# Altium schematic symbol library DC2342A-4_Library.SchLib: 120 symbols
Pins are listed as number, name and electrical type; pins without a type are passive.

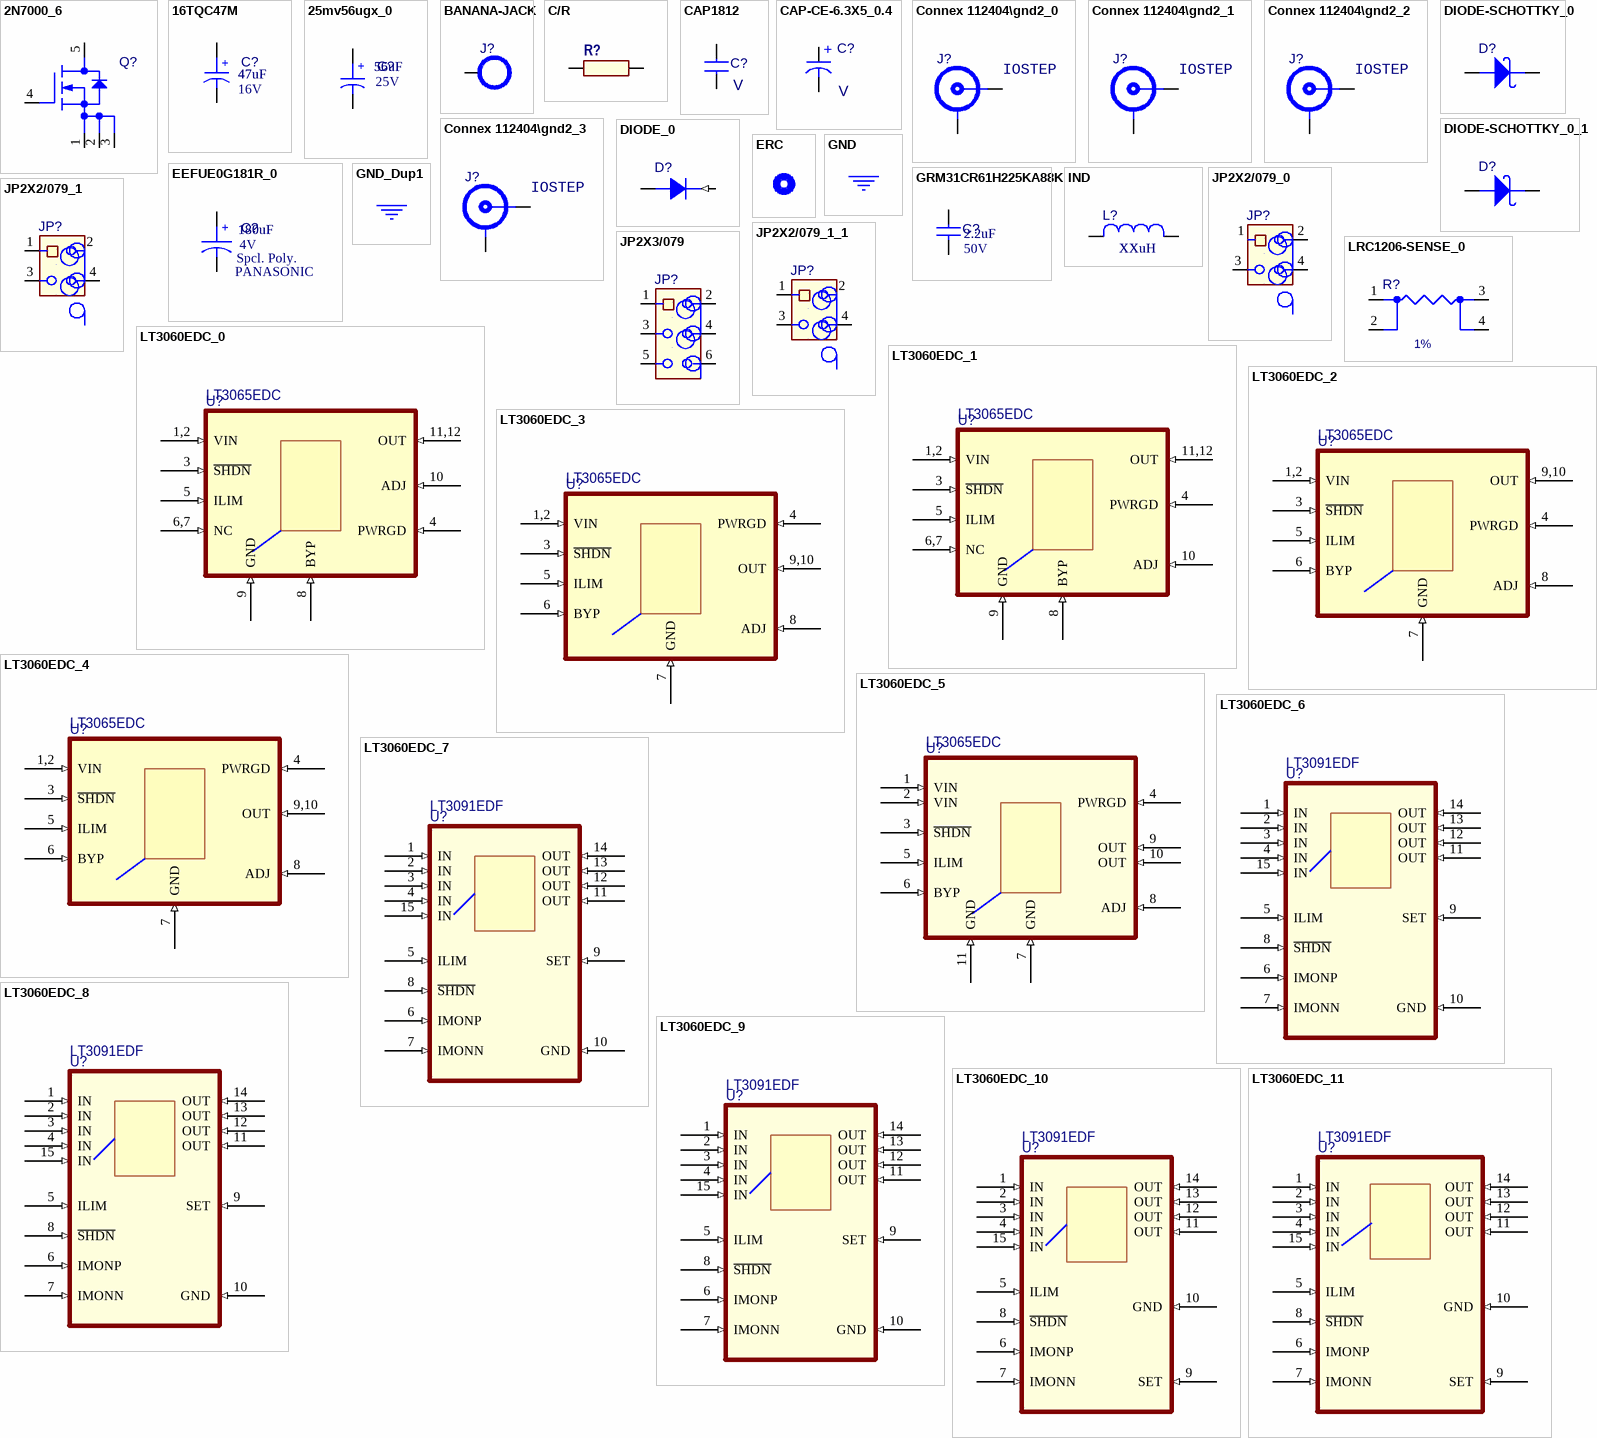
[diagram p0: symbols 2N7000_6 to LT3060EDC_11]

## 2N7000_6
designator Q?
pins: 1 SOURCE, 2 SOURCE, 3 SOURCE, 4 GATE, 5 DRAIN

## 16TQC47M
designator C?, comment 47uF  1st Part Field: 16V
2nd Part Field: 10%; 7th Part Field: Cap.,; 5th Part Field: 16TQC47M; 4th Part Field: SANYO; 3rd Part Field: POSCAP; Value: 47uF
footprint 7343\POSCAP
pins: 1, 2
text: +

## 25mv56ugx_0
designator C?, comment 56uF  1st Part Field: 25V
2nd Part Field: 25%; 7th Part Field: Cap.,; 5th Part Field: 25MV56UGX; 4th Part Field: SANYO; 3rd Part Field: Alum; Value: 56uF
footprint 25mv56ugx
pins: 1, 2
text: +

## BANANA-JACK
designator J?
footprint KEY-575-4
pins: 1

## C/R
designator R?, comment THERMISTOR  (value not drawn)
Value: THERMISTOR
footprint MF72
pins: 1, 2

## CAP1812
designator C?  1ST PART FIELD: V
4TH PART FIELD: MF; 5TH PART FIELD: 1812; 7TH PART FIELD: CAP.,; 3RD PART FIELD: TYPE; 2ND PART FIELD: % 1812
footprint CAP1812
pins: 1, 2

## CAP-CE-6.3X5_0.4
designator C?  1ST PART FIELD: V
4TH PART FIELD: SANYO; 5TH PART FIELD: ..CV..; 7TH PART FIELD: CAP.,; 3RD PART FIELD: CV   6.3X6.0; 2ND PART FIELD: %
footprint CAP-CE-6.3X5.4
pins: 1, 2
text: +

## Connex 112404\gnd2_0
designator J?, comment 9th Part Field: IOSTEP  (hidden comment: Connector)
7th Part Field: BNC; 5th Part Field: 112404; 4th Part Field: Connex; Value: Connector
footprint Connex-112404
pins: 1, 2 GND, 3 GND (power) hidden to GND, 4 GND (power) hidden to GND, 5 GND (power) hidden to GND

## Connex 112404\gnd2_1
designator J?, comment 9th Part Field: IOSTEP  (hidden comment: Connector)
7th Part Field: BNC; 5th Part Field: 112404; 4th Part Field: Connex; Value: Connector
footprint Connex-112404
pins: 1, 2, 3 (power) hidden to 3, 4 GND (power) hidden to GND, 5 (power) hidden to 5

## Connex 112404\gnd2_2
designator J?, comment 9th Part Field: IOSTEP  (hidden comment: Connector)
4th Part Field: Connex; 5th Part Field: 112404; 7th Part Field: BNC; Value: Connector
footprint Connex-112404
pins: 1, 2 (power) hidden to 2, 3 (power) hidden to 3, 4 GND, 5 (power) hidden to 5

## Connex 112404\gnd2_3
designator J?, comment 9th Part Field: IOSTEP  (hidden comment: Connector)
4th Part Field: Connex; 5th Part Field: 112404; 7th Part Field: BNC; Value: Connector
footprint Connex-112404
pins: 1, 2 (power) hidden to 2, 3 (power) hidden to 3, 4 GND, 5 (power) hidden to 5

## DIODE-SCHOTTKY_0
designator D?
footprint SOD-123
pins: 1, 2

## DIODE-SCHOTTKY_0_1
designator D?
footprint SOD-123
pins: 1, 2

## DIODE_0
designator D?
2ND PART FIELD: PACKAGE; 7TH PART FIELD: DIODE; 5TH PART FIELD: PART#; 4TH PART FIELD: MANUFACTURE; MANU: AVX
pins: 1 (in), 2

## EEFUE0G181R_0
designator C?, comment 180uF  1st Part Field: 4V  4th Part Field: PANASONIC  3rd Part Field: Spcl. Poly.
2nd Part Field: 20%; 7th Part Field: Capacitor,; 5th Part Field: EEFUE0G181R; Value: 180uF
footprint EEFUE0G181R
pins: 1, 2
text: +

## ERC
designator *  (value not drawn)  (graphical)

## GND
designator *  (value not drawn)  (graphical)
pins: GND (power) hidden to GND

## GND_Dup1
designator *  (value not drawn)  (graphical)
pins: $PIN0 (power) hidden to $PIN0

## GRM31CR61H225KA88K
designator C?, comment 2.2uF  1st Part Field: 50V
7th Part Field: Cap.,; 3rd Part Field: X5R; 5th Part Field: GRM31CR61H225KA88K; 4th Part Field: Murata; 2nd Part Field: 10%; Value: 2.2uF
footprint 1206
pins: 1, 2

## IND
designator L?, comment XXuH
7TH PART FIELD: INDUCTOR,; 5TH PART FIELD: PART NO; 4TH PART FIELD: MF; Value: XXuH
pins: 1, 2

## JP2X2/079_0
designator JP?  (value not drawn)
7 TH PART FIELD: 0.079 DOUBLE ROW HEADER
footprint JP2X2/079
pins: 1, 2, 3, 4

## JP2X2/079_1
designator JP?  (value not drawn)
7 TH PART FIELD: 0.079 DOUBLE ROW HEADER
footprint JP2X2/079
pins: 1, 2, 3, 4

## JP2X2/079_1_1
designator JP?  (value not drawn)
7 TH PART FIELD: 0.079 DOUBLE ROW HEADER
footprint JP2X2/079
pins: 1, 2, 3, 4

## JP2X3/079
designator JP?  (value not drawn)
7 TH PART FIELD: 0.079 DOUBLE ROW HEADER
footprint JP2X3/079
pins: 1, 2, 3, 4, 5, 6

## LRC1206-SENSE_0
designator R?  2nd Part Field: 1%
3rd Part Field: LRC; 4th Part Field: IRC; 5th Part Field: LR1206-----; 7th Part Field: Resistor,; 1st Part Field: 0.5W
footprint 1206-SENSE
pins: 1, 2, 3, 4

## LT3060EDC_0
designator U?, comment 5th Part Field: LT3065EDC  (hidden comment: Low Dropout Reg.)
7th Part Field: I.C.,; 4th Part Field: Linear Tech. Corp.; Value: Low Dropout Reg.
footprint DFN(08)(DC)2MMX2MM
pins: 1,2 VIN (in), 3 ~{SHDN} (in), 4 PWRGD (in), 5 ILIM (in), 6,7 NC (in), 8 BYP (in), 9 GND (in), 10 ADJ (in), 11,12 OUT (in)

## LT3060EDC_1
designator U?, comment 5th Part Field: LT3065EDC  (hidden comment: Low Dropout Reg.)
7th Part Field: I.C.,; 4th Part Field: Linear Tech. Corp.; Value: Low Dropout Reg.
footprint DFN(08)(DC)2MMX2MM
pins: 1,2 VIN (in), 3 ~{SHDN} (in), 4 PWRGD (in), 5 ILIM (in), 6,7 NC (in), 8 BYP (in), 9 GND (in), 10 ADJ (in), 11,12 OUT (in)

## LT3060EDC_2
designator U?, comment 5th Part Field: LT3065EDC  (hidden comment: Low Dropout Reg.)
4th Part Field: Linear Tech. Corp.; 7th Part Field: I.C.,; Value: Low Dropout Reg.
footprint DFN(08)(DC)2MMX2MM
pins: 1,2 VIN (in), 3 ~{SHDN} (in), 4 PWRGD (in), 5 ILIM (in), 6 BYP (in), 7 GND (in), 8 ADJ (in), 9,10 OUT (in)

## LT3060EDC_3
designator U?, comment 5th Part Field: LT3065EDC  (hidden comment: Low Dropout Reg.)
4th Part Field: Linear Tech. Corp.; 7th Part Field: I.C.,; Value: Low Dropout Reg.
footprint DFN(08)(DC)2MMX2MM
pins: 1,2 VIN (in), 3 ~{SHDN} (in), 4 PWRGD (in), 5 ILIM (in), 6 BYP (in), 7 GND (in), 8 ADJ (in), 9,10 OUT (in)

## LT3060EDC_4
designator U?, comment 5th Part Field: LT3065EDC  (hidden comment: Low Dropout Reg.)
4th Part Field: Linear Tech. Corp.; 7th Part Field: I.C.,; Value: Low Dropout Reg.
footprint DFN(08)(DC)2MMX2MM
pins: 1,2 VIN (in), 3 ~{SHDN} (in), 4 PWRGD (in), 5 ILIM (in), 6 BYP (in), 7 GND (in), 8 ADJ (in), 9,10 OUT (in)

## LT3060EDC_5
designator U?, comment 5th Part Field: LT3065EDC  (hidden comment: Low Dropout Reg.)
4th Part Field: Linear Tech. Corp.; 7th Part Field: I.C.,; Value: Low Dropout Reg.
footprint DFN(08)(DC)2MMX2MM
pins: 1 VIN (in), 2 VIN (in), 3 ~{SHDN} (in), 4 PWRGD (in), 5 ILIM (in), 6 BYP (in), 7 GND (in), 8 ADJ (in), 9 OUT (in), 10 OUT (in), 11 GND (in)

## LT3060EDC_6
designator U?, comment 5th Part Field: LT3091EDF  (hidden comment: Low Dropout Reg.)
7th Part Field: I.C.,; 4th Part Field: Linear Tech. Corp.; Value: Low Dropout Reg.
footprint DFN(08)(DC)2MMX2MM
pins: 1 IN (in), 2 IN (in), 3 IN (in), 4 IN (in), 5 ILIM (in), 6 IMONP (in), 7 IMONN (in), 8 ~{SHDN} (in), 9 SET (in), 10 GND (in), 11 OUT (in), 12 OUT (in), 13 OUT (in), 14 OUT (in), 15 IN (in)

## LT3060EDC_7
designator U?, comment 5th Part Field: LT3091EDF  (hidden comment: Low Dropout Reg.)
7th Part Field: I.C.,; 4th Part Field: Linear Tech. Corp.; Value: Low Dropout Reg.
footprint DFN(08)(DC)2MMX2MM
pins: 1 IN (in), 2 IN (in), 3 IN (in), 4 IN (in), 5 ILIM (in), 6 IMONP (in), 7 IMONN (in), 8 ~{SHDN} (in), 9 SET (in), 10 GND (in), 11 OUT (in), 12 OUT (in), 13 OUT (in), 14 OUT (in), 15 IN (in)

## LT3060EDC_8
designator U?, comment 5th Part Field: LT3091EDF  (hidden comment: Low Dropout Reg.)
7th Part Field: I.C.,; 4th Part Field: Linear Tech. Corp.; Value: Low Dropout Reg.
footprint DFN(08)(DC)2MMX2MM
pins: 1 IN (in), 2 IN (in), 3 IN (in), 4 IN (in), 5 ILIM (in), 6 IMONP (in), 7 IMONN (in), 8 ~{SHDN} (in), 9 SET (in), 10 GND (in), 11 OUT (in), 12 OUT (in), 13 OUT (in), 14 OUT (in), 15 IN (in)

## LT3060EDC_9
designator U?, comment 5th Part Field: LT3091EDF  (hidden comment: Low Dropout Reg.)
7th Part Field: I.C.,; 4th Part Field: Linear Tech. Corp.; Value: Low Dropout Reg.
footprint DFN(08)(DC)2MMX2MM
pins: 1 IN (in), 2 IN (in), 3 IN (in), 4 IN (in), 5 ILIM (in), 6 IMONP (in), 7 IMONN (in), 8 ~{SHDN} (in), 9 SET (in), 10 GND (in), 11 OUT (in), 12 OUT (in), 13 OUT (in), 14 OUT (in), 15 IN (in)

## LT3060EDC_10
designator U?, comment 5th Part Field: LT3091EDF  (hidden comment: Low Dropout Reg.)
7th Part Field: I.C.,; 4th Part Field: Linear Tech. Corp.; Value: Low Dropout Reg.
footprint DFN(08)(DC)2MMX2MM
pins: 1 IN (in), 2 IN (in), 3 IN (in), 4 IN (in), 5 ILIM (in), 6 IMONP (in), 7 IMONN (in), 8 ~{SHDN} (in), 9 SET (in), 10 GND (in), 11 OUT (in), 12 OUT (in), 13 OUT (in), 14 OUT (in), 15 IN (in)

## LT3060EDC_11
designator U?, comment 5th Part Field: LT3091EDF  (hidden comment: Low Dropout Reg.)
4th Part Field: Linear Tech. Corp.; 7th Part Field: I.C.,; Value: Low Dropout Reg.
footprint DFN(08)(DC)2MMX2MM
pins: 1 IN (in), 2 IN (in), 3 IN (in), 4 IN (in), 5 ILIM (in), 6 IMONP (in), 7 IMONN (in), 8 ~{SHDN} (in), 9 SET (in), 10 GND (in), 11 OUT (in), 12 OUT (in), 13 OUT (in), 14 OUT (in), 15 IN (in)

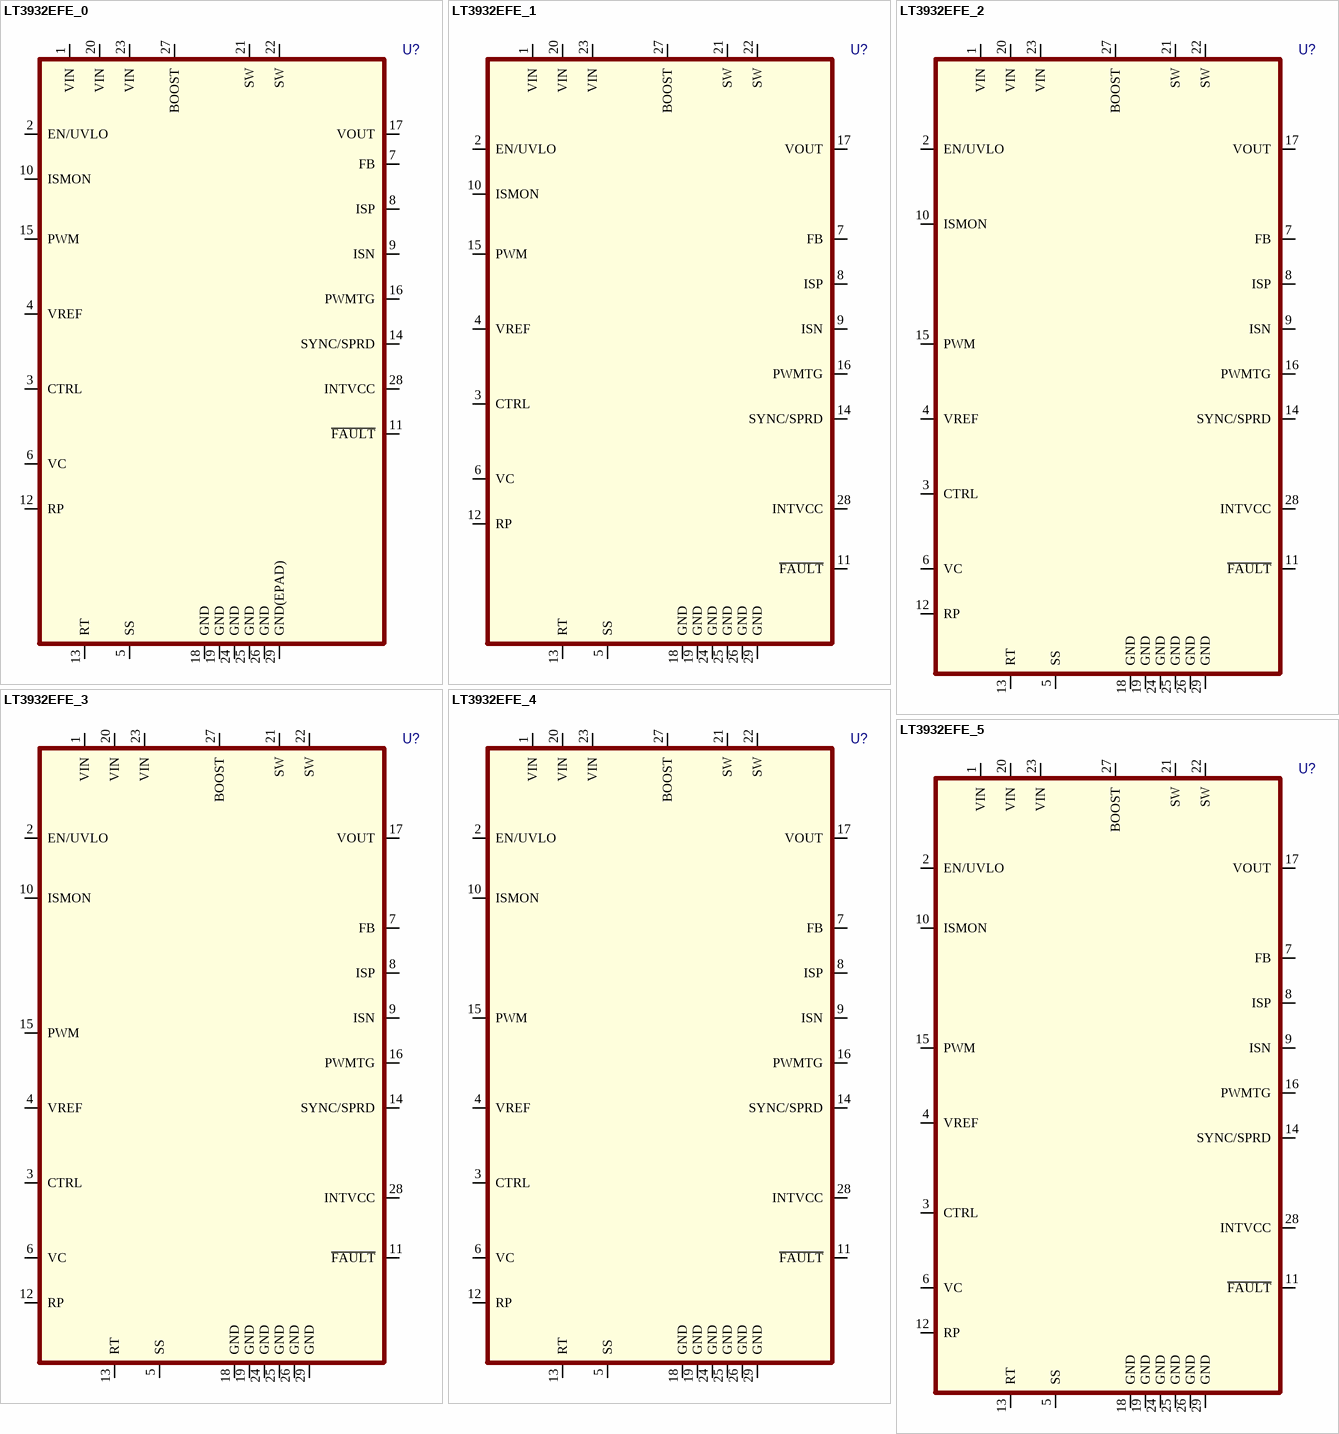
[diagram p1: symbols LT3932EFE_0 to LT3932EFE_5]

## LT3932EFE_0
designator U?
pins: 1 VIN, 2 EN/UVLO, 3 CTRL, 4 VREF, 5 SS, 6 VC, 7 FB, 8 ISP, 9 ISN, 10 ISMON, 11 ~{FAULT}, 12 RP, 13 RT, 14 SYNC/SPRD, 15 PWM, 16 PWMTG, 17 VOUT, 18 GND, 19 GND, 20 VIN, 21 SW, 22 SW, 23 VIN, 24 GND, 25 GND, 26 GND, 27 BOOST, 28 INTVCC, 29 GND(EPAD)

## LT3932EFE_1
designator U?
pins: 1 VIN, 2 EN/UVLO, 3 CTRL, 4 VREF, 5 SS, 6 VC, 7 FB, 8 ISP, 9 ISN, 10 ISMON, 11 ~{FAULT}, 12 RP, 13 RT, 14 SYNC/SPRD, 15 PWM, 16 PWMTG, 17 VOUT, 18 GND, 19 GND, 20 VIN, 21 SW, 22 SW, 23 VIN, 24 GND, 25 GND, 26 GND, 27 BOOST, 28 INTVCC, 29 GND

## LT3932EFE_2
designator U?
pins: 1 VIN, 2 EN/UVLO, 3 CTRL, 4 VREF, 5 SS, 6 VC, 7 FB, 8 ISP, 9 ISN, 10 ISMON, 11 ~{FAULT}, 12 RP, 13 RT, 14 SYNC/SPRD, 15 PWM, 16 PWMTG, 17 VOUT, 18 GND, 19 GND, 20 VIN, 21 SW, 22 SW, 23 VIN, 24 GND, 25 GND, 26 GND, 27 BOOST, 28 INTVCC, 29 GND

## LT3932EFE_3
designator U?
pins: 1 VIN, 2 EN/UVLO, 3 CTRL, 4 VREF, 5 SS, 6 VC, 7 FB, 8 ISP, 9 ISN, 10 ISMON, 11 ~{FAULT}, 12 RP, 13 RT, 14 SYNC/SPRD, 15 PWM, 16 PWMTG, 17 VOUT, 18 GND, 19 GND, 20 VIN, 21 SW, 22 SW, 23 VIN, 24 GND, 25 GND, 26 GND, 27 BOOST, 28 INTVCC, 29 GND

## LT3932EFE_4
designator U?
pins: 1 VIN, 2 EN/UVLO, 3 CTRL, 4 VREF, 5 SS, 6 VC, 7 FB, 8 ISP, 9 ISN, 10 ISMON, 11 ~{FAULT}, 12 RP, 13 RT, 14 SYNC/SPRD, 15 PWM, 16 PWMTG, 17 VOUT, 18 GND, 19 GND, 20 VIN, 21 SW, 22 SW, 23 VIN, 24 GND, 25 GND, 26 GND, 27 BOOST, 28 INTVCC, 29 GND

## LT3932EFE_5
designator U?
pins: 1 VIN, 2 EN/UVLO, 3 CTRL, 4 VREF, 5 SS, 6 VC, 7 FB, 8 ISP, 9 ISN, 10 ISMON, 11 ~{FAULT}, 12 RP, 13 RT, 14 SYNC/SPRD, 15 PWM, 16 PWMTG, 17 VOUT, 18 GND, 19 GND, 20 VIN, 21 SW, 22 SW, 23 VIN, 24 GND, 25 GND, 26 GND, 27 BOOST, 28 INTVCC, 29 GND

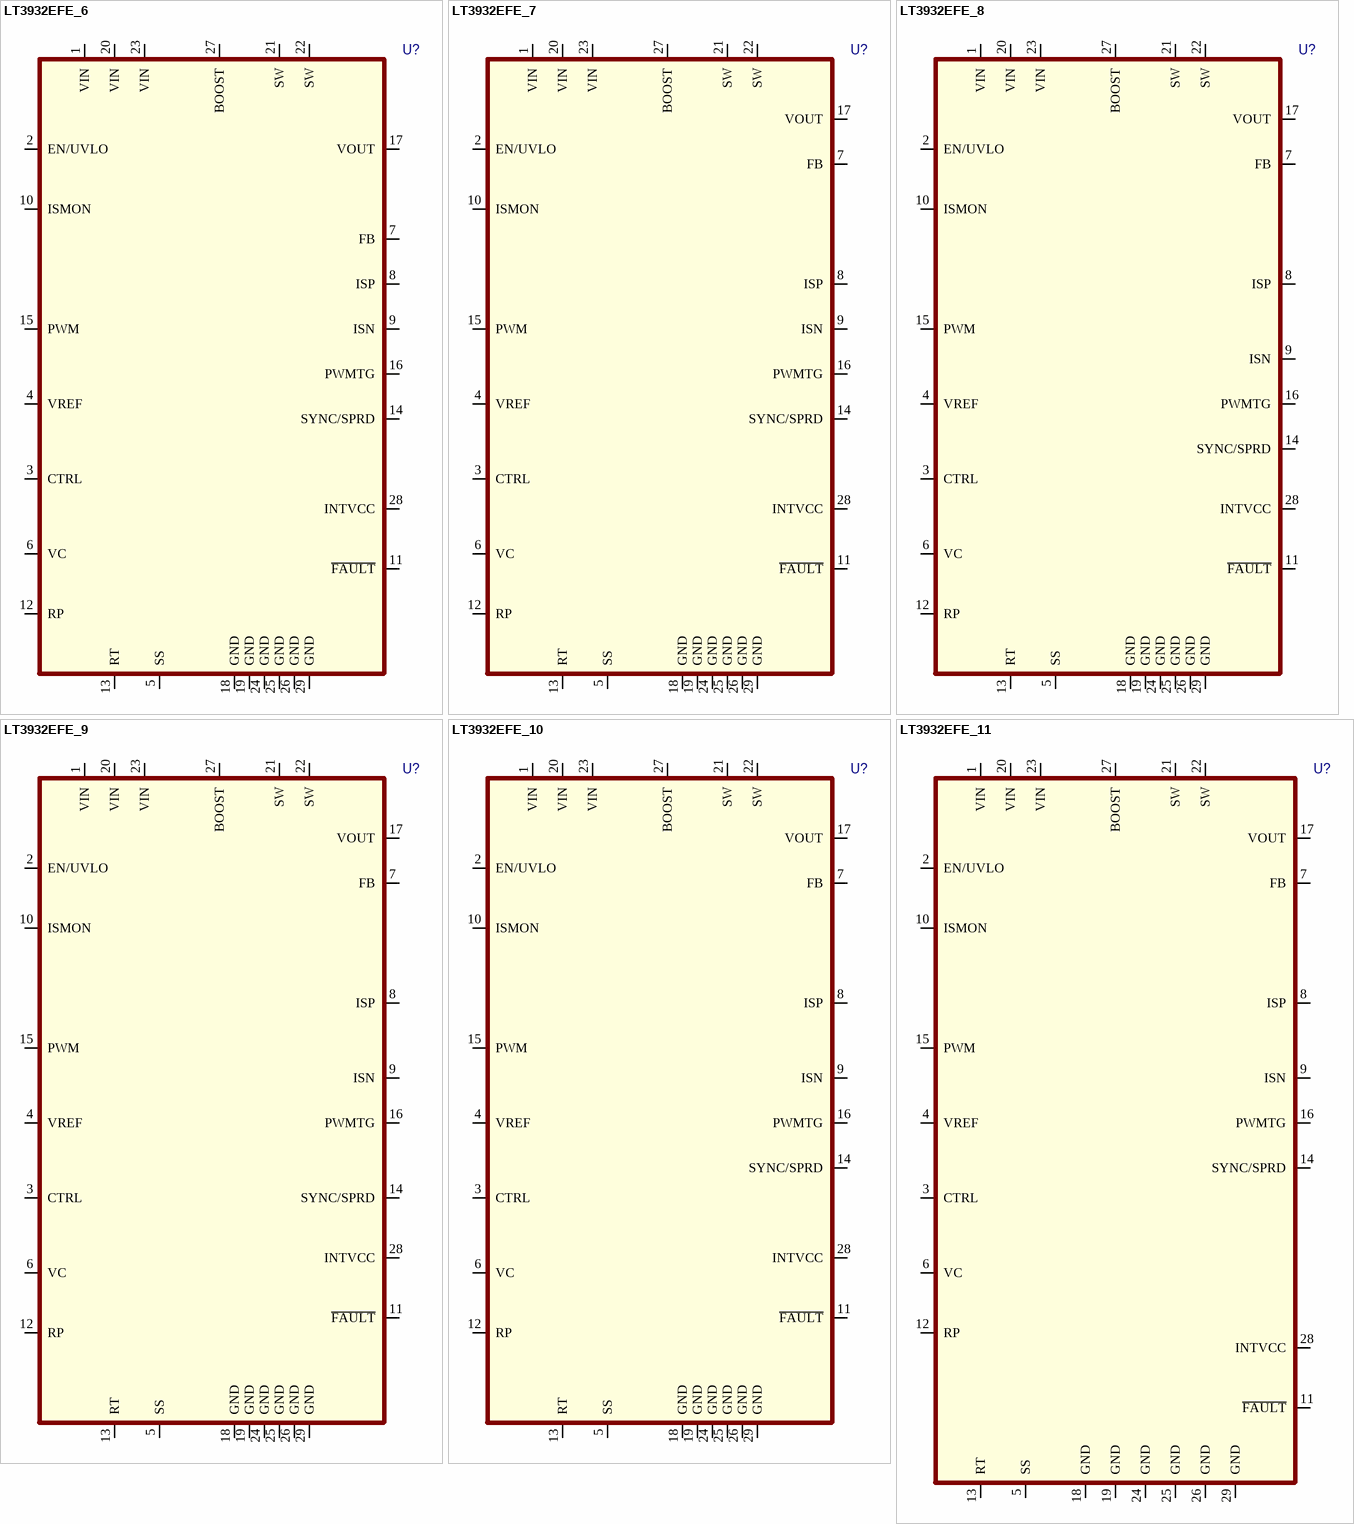
[diagram p2: symbols LT3932EFE_6 to LT3932EFE_11]

## LT3932EFE_6
designator U?
pins: 1 VIN, 2 EN/UVLO, 3 CTRL, 4 VREF, 5 SS, 6 VC, 7 FB, 8 ISP, 9 ISN, 10 ISMON, 11 ~{FAULT}, 12 RP, 13 RT, 14 SYNC/SPRD, 15 PWM, 16 PWMTG, 17 VOUT, 18 GND, 19 GND, 20 VIN, 21 SW, 22 SW, 23 VIN, 24 GND, 25 GND, 26 GND, 27 BOOST, 28 INTVCC, 29 GND

## LT3932EFE_7
designator U?
pins: 1 VIN, 2 EN/UVLO, 3 CTRL, 4 VREF, 5 SS, 6 VC, 7 FB, 8 ISP, 9 ISN, 10 ISMON, 11 ~{FAULT}, 12 RP, 13 RT, 14 SYNC/SPRD, 15 PWM, 16 PWMTG, 17 VOUT, 18 GND, 19 GND, 20 VIN, 21 SW, 22 SW, 23 VIN, 24 GND, 25 GND, 26 GND, 27 BOOST, 28 INTVCC, 29 GND

## LT3932EFE_8
designator U?
pins: 1 VIN, 2 EN/UVLO, 3 CTRL, 4 VREF, 5 SS, 6 VC, 7 FB, 8 ISP, 9 ISN, 10 ISMON, 11 ~{FAULT}, 12 RP, 13 RT, 14 SYNC/SPRD, 15 PWM, 16 PWMTG, 17 VOUT, 18 GND, 19 GND, 20 VIN, 21 SW, 22 SW, 23 VIN, 24 GND, 25 GND, 26 GND, 27 BOOST, 28 INTVCC, 29 GND

## LT3932EFE_9
designator U?
pins: 1 VIN, 2 EN/UVLO, 3 CTRL, 4 VREF, 5 SS, 6 VC, 7 FB, 8 ISP, 9 ISN, 10 ISMON, 11 ~{FAULT}, 12 RP, 13 RT, 14 SYNC/SPRD, 15 PWM, 16 PWMTG, 17 VOUT, 18 GND, 19 GND, 20 VIN, 21 SW, 22 SW, 23 VIN, 24 GND, 25 GND, 26 GND, 27 BOOST, 28 INTVCC, 29 GND

## LT3932EFE_10
designator U?
pins: 1 VIN, 2 EN/UVLO, 3 CTRL, 4 VREF, 5 SS, 6 VC, 7 FB, 8 ISP, 9 ISN, 10 ISMON, 11 ~{FAULT}, 12 RP, 13 RT, 14 SYNC/SPRD, 15 PWM, 16 PWMTG, 17 VOUT, 18 GND, 19 GND, 20 VIN, 21 SW, 22 SW, 23 VIN, 24 GND, 25 GND, 26 GND, 27 BOOST, 28 INTVCC, 29 GND

## LT3932EFE_11
designator U?
pins: 1 VIN, 2 EN/UVLO, 3 CTRL, 4 VREF, 5 SS, 6 VC, 7 FB, 8 ISP, 9 ISN, 10 ISMON, 11 ~{FAULT}, 12 RP, 13 RT, 14 SYNC/SPRD, 15 PWM, 16 PWMTG, 17 VOUT, 18 GND, 19 GND, 20 VIN, 21 SW, 22 SW, 23 VIN, 24 GND, 25 GND, 26 GND, 27 BOOST, 28 INTVCC, 29 GND

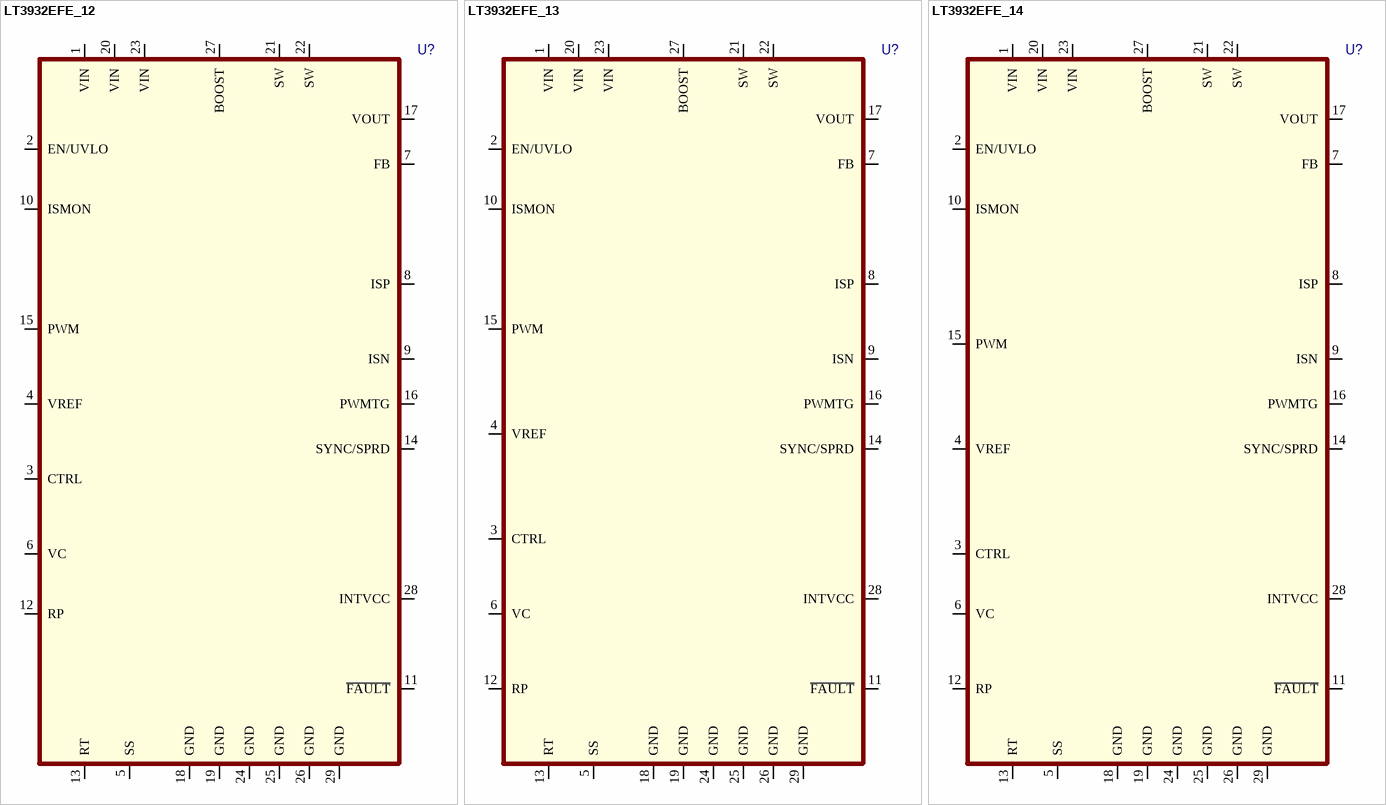
[diagram p3: symbols LT3932EFE_12 to LT3932EFE_14]

## LT3932EFE_12
designator U?
pins: 1 VIN, 2 EN/UVLO, 3 CTRL, 4 VREF, 5 SS, 6 VC, 7 FB, 8 ISP, 9 ISN, 10 ISMON, 11 ~{FAULT}, 12 RP, 13 RT, 14 SYNC/SPRD, 15 PWM, 16 PWMTG, 17 VOUT, 18 GND, 19 GND, 20 VIN, 21 SW, 22 SW, 23 VIN, 24 GND, 25 GND, 26 GND, 27 BOOST, 28 INTVCC, 29 GND

## LT3932EFE_13
designator U?
pins: 1 VIN, 2 EN/UVLO, 3 CTRL, 4 VREF, 5 SS, 6 VC, 7 FB, 8 ISP, 9 ISN, 10 ISMON, 11 ~{FAULT}, 12 RP, 13 RT, 14 SYNC/SPRD, 15 PWM, 16 PWMTG, 17 VOUT, 18 GND, 19 GND, 20 VIN, 21 SW, 22 SW, 23 VIN, 24 GND, 25 GND, 26 GND, 27 BOOST, 28 INTVCC, 29 GND

## LT3932EFE_14
designator U?
pins: 1 VIN, 2 EN/UVLO, 3 CTRL, 4 VREF, 5 SS, 6 VC, 7 FB, 8 ISP, 9 ISN, 10 ISMON, 11 ~{FAULT}, 12 RP, 13 RT, 14 SYNC/SPRD, 15 PWM, 16 PWMTG, 17 VOUT, 18 GND, 19 GND, 20 VIN, 21 SW, 22 SW, 23 VIN, 24 GND, 25 GND, 26 GND, 27 BOOST, 28 INTVCC, 29 GND

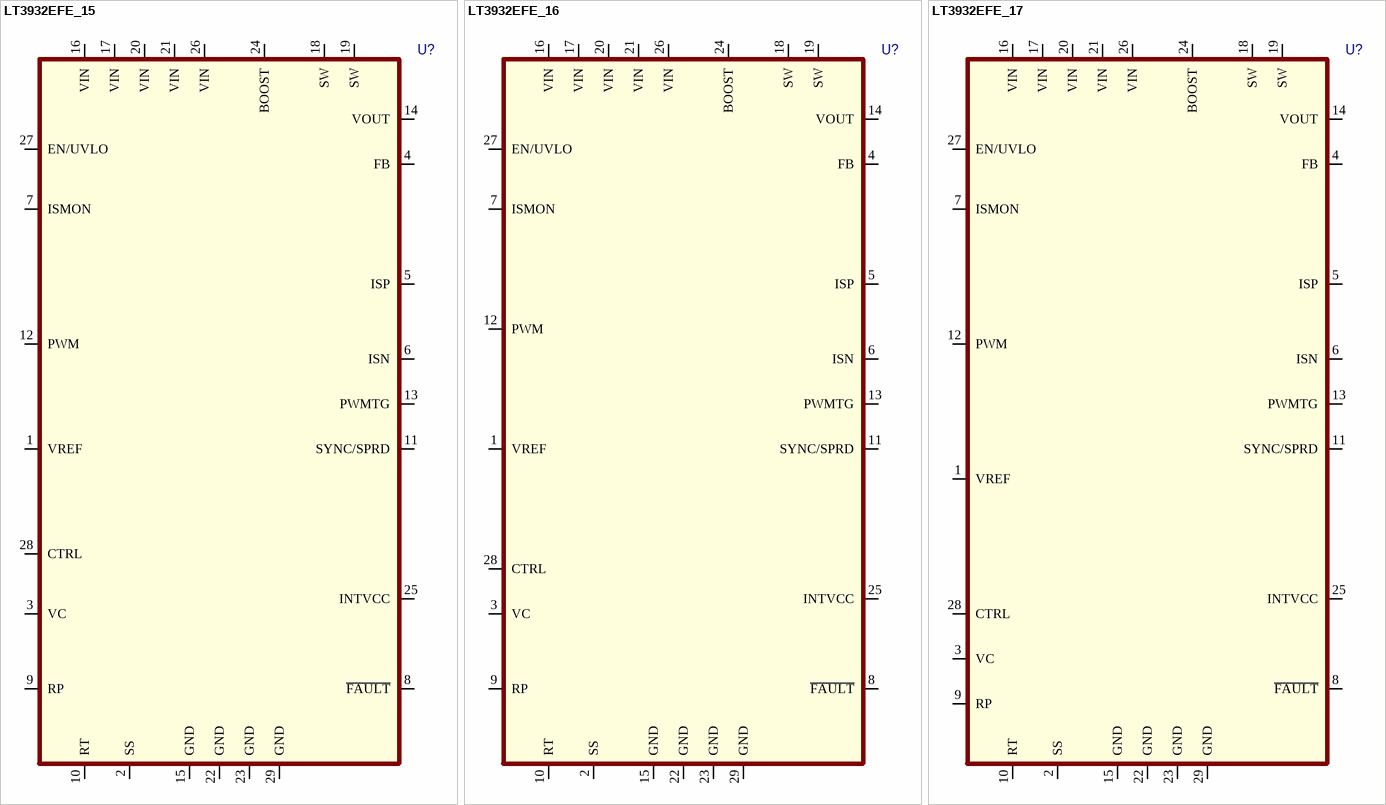
[diagram p4: symbols LT3932EFE_15 to LT3932EFE_17]

## LT3932EFE_15
designator U?
pins: 1 VREF, 2 SS, 3 VC, 4 FB, 5 ISP, 6 ISN, 7 ISMON, 8 ~{FAULT}, 9 RP, 10 RT, 11 SYNC/SPRD, 12 PWM, 13 PWMTG, 14 VOUT, 15 GND, 16 VIN, 17 VIN, 18 SW, 19 SW, 20 VIN, 21 VIN, 22 GND, 23 GND, 24 BOOST, 25 INTVCC, 26 VIN, 27 EN/UVLO, 28 CTRL, 29 GND

## LT3932EFE_16
designator U?
pins: 1 VREF, 2 SS, 3 VC, 4 FB, 5 ISP, 6 ISN, 7 ISMON, 8 ~{FAULT}, 9 RP, 10 RT, 11 SYNC/SPRD, 12 PWM, 13 PWMTG, 14 VOUT, 15 GND, 16 VIN, 17 VIN, 18 SW, 19 SW, 20 VIN, 21 VIN, 22 GND, 23 GND, 24 BOOST, 25 INTVCC, 26 VIN, 27 EN/UVLO, 28 CTRL, 29 GND

## LT3932EFE_17
designator U?
pins: 1 VREF, 2 SS, 3 VC, 4 FB, 5 ISP, 6 ISN, 7 ISMON, 8 ~{FAULT}, 9 RP, 10 RT, 11 SYNC/SPRD, 12 PWM, 13 PWMTG, 14 VOUT, 15 GND, 16 VIN, 17 VIN, 18 SW, 19 SW, 20 VIN, 21 VIN, 22 GND, 23 GND, 24 BOOST, 25 INTVCC, 26 VIN, 27 EN/UVLO, 28 CTRL, 29 GND

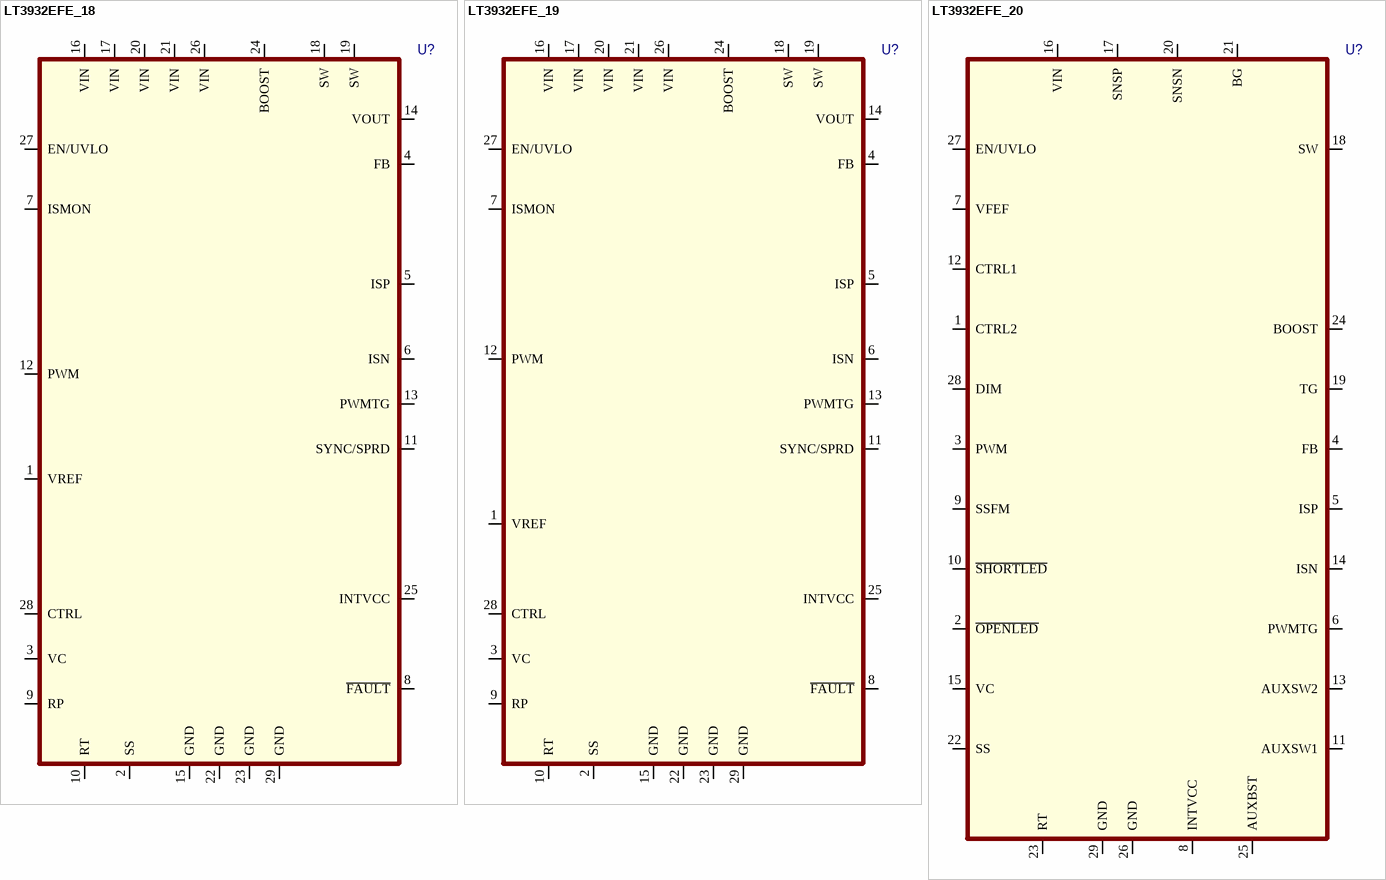
[diagram p5: symbols LT3932EFE_18 to LT3932EFE_20]

## LT3932EFE_18
designator U?
pins: 1 VREF, 2 SS, 3 VC, 4 FB, 5 ISP, 6 ISN, 7 ISMON, 8 ~{FAULT}, 9 RP, 10 RT, 11 SYNC/SPRD, 12 PWM, 13 PWMTG, 14 VOUT, 15 GND, 16 VIN, 17 VIN, 18 SW, 19 SW, 20 VIN, 21 VIN, 22 GND, 23 GND, 24 BOOST, 25 INTVCC, 26 VIN, 27 EN/UVLO, 28 CTRL, 29 GND

## LT3932EFE_19
designator U?
pins: 1 VREF, 2 SS, 3 VC, 4 FB, 5 ISP, 6 ISN, 7 ISMON, 8 ~{FAULT}, 9 RP, 10 RT, 11 SYNC/SPRD, 12 PWM, 13 PWMTG, 14 VOUT, 15 GND, 16 VIN, 17 VIN, 18 SW, 19 SW, 20 VIN, 21 VIN, 22 GND, 23 GND, 24 BOOST, 25 INTVCC, 26 VIN, 27 EN/UVLO, 28 CTRL, 29 GND

## LT3932EFE_20
designator U?
pins: 1 CTRL2, 2 ~{OPENLED}, 3 PWM, 4 FB, 5 ISP, 6 PWMTG, 7 VFEF, 8 INTVCC, 9 SSFM, 10 ~{SHORTLED}, 11 AUXSW1, 12 CTRL1, 13 AUXSW2, 14 ISN, 15 VC, 16 VIN, 17 SNSP, 18 SW, 19 TG, 20 SNSN, 21 BG, 22 SS, 23 RT, 24 BOOST, 25 AUXBST, 26 GND, 27 EN/UVLO, 28 DIM, 29 GND

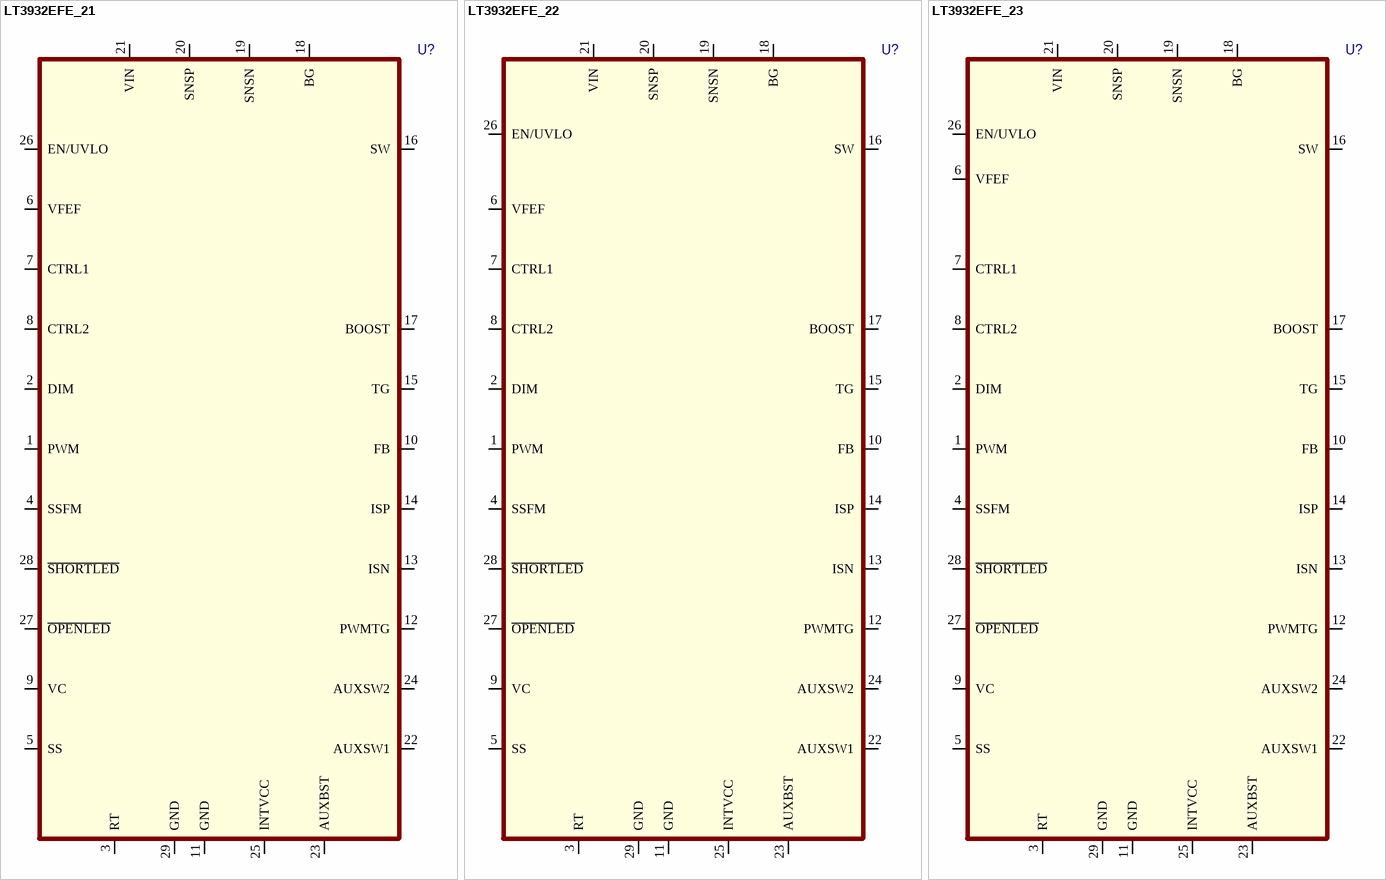
[diagram p6: symbols LT3932EFE_21 to LT3932EFE_23]

## LT3932EFE_21
designator U?
pins: 1 PWM, 2 DIM, 3 RT, 4 SSFM, 5 SS, 6 VFEF, 7 CTRL1, 8 CTRL2, 9 VC, 10 FB, 11 GND, 12 PWMTG, 13 ISN, 14 ISP, 15 TG, 16 SW, 17 BOOST, 18 BG, 19 SNSN, 20 SNSP, 21 VIN, 22 AUXSW1, 23 AUXBST, 24 AUXSW2, 25 INTVCC, 26 EN/UVLO, 27 ~{OPENLED}, 28 ~{SHORTLED}, 29 GND

## LT3932EFE_22
designator U?
pins: 1 PWM, 2 DIM, 3 RT, 4 SSFM, 5 SS, 6 VFEF, 7 CTRL1, 8 CTRL2, 9 VC, 10 FB, 11 GND, 12 PWMTG, 13 ISN, 14 ISP, 15 TG, 16 SW, 17 BOOST, 18 BG, 19 SNSN, 20 SNSP, 21 VIN, 22 AUXSW1, 23 AUXBST, 24 AUXSW2, 25 INTVCC, 26 EN/UVLO, 27 ~{OPENLED}, 28 ~{SHORTLED}, 29 GND

## LT3932EFE_23
designator U?
pins: 1 PWM, 2 DIM, 3 RT, 4 SSFM, 5 SS, 6 VFEF, 7 CTRL1, 8 CTRL2, 9 VC, 10 FB, 11 GND, 12 PWMTG, 13 ISN, 14 ISP, 15 TG, 16 SW, 17 BOOST, 18 BG, 19 SNSN, 20 SNSP, 21 VIN, 22 AUXSW1, 23 AUXBST, 24 AUXSW2, 25 INTVCC, 26 EN/UVLO, 27 ~{OPENLED}, 28 ~{SHORTLED}, 29 GND

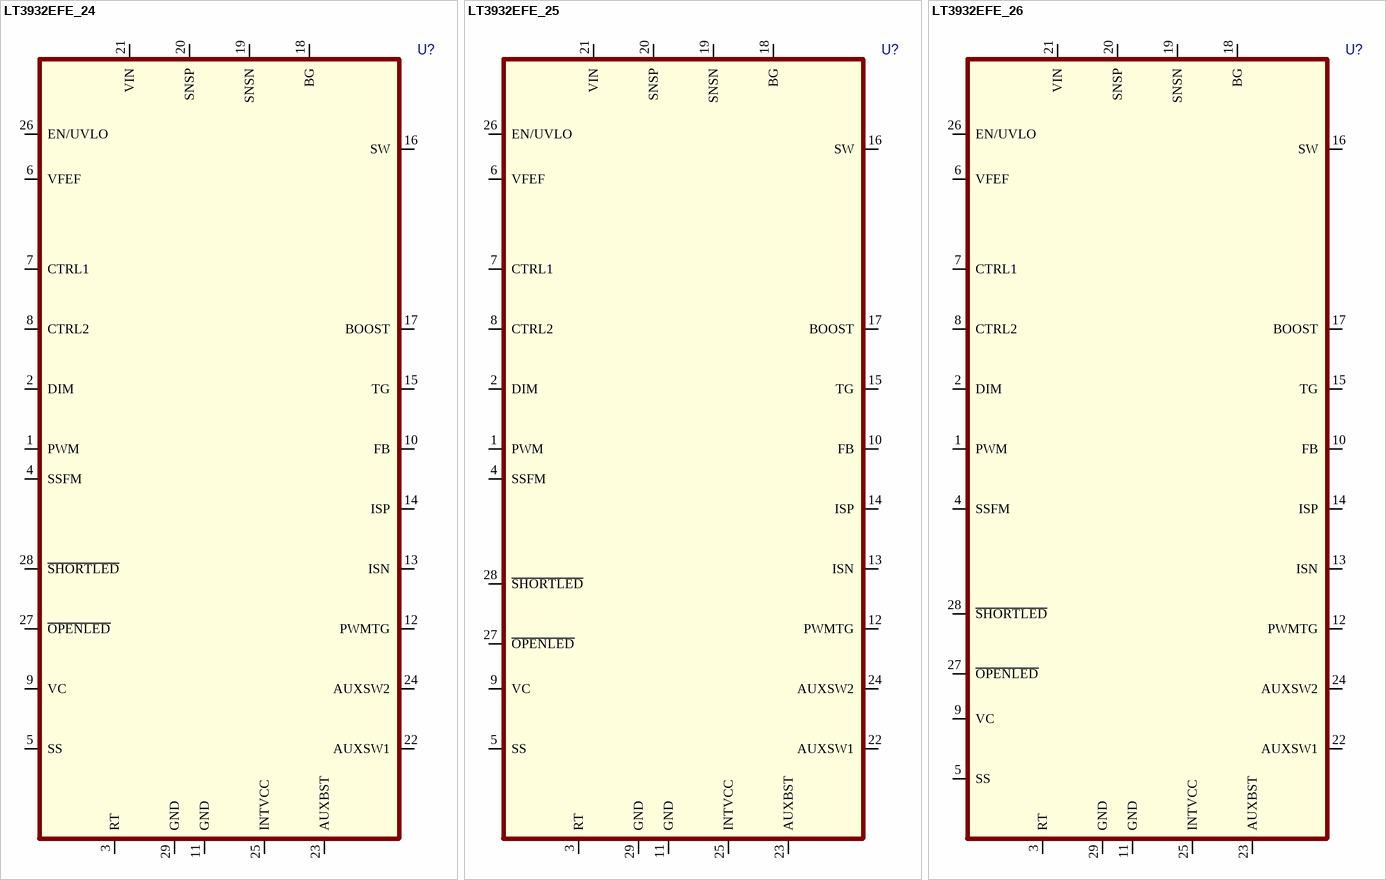
[diagram p7: symbols LT3932EFE_24 to LT3932EFE_26]

## LT3932EFE_24
designator U?
pins: 1 PWM, 2 DIM, 3 RT, 4 SSFM, 5 SS, 6 VFEF, 7 CTRL1, 8 CTRL2, 9 VC, 10 FB, 11 GND, 12 PWMTG, 13 ISN, 14 ISP, 15 TG, 16 SW, 17 BOOST, 18 BG, 19 SNSN, 20 SNSP, 21 VIN, 22 AUXSW1, 23 AUXBST, 24 AUXSW2, 25 INTVCC, 26 EN/UVLO, 27 ~{OPENLED}, 28 ~{SHORTLED}, 29 GND

## LT3932EFE_25
designator U?
pins: 1 PWM, 2 DIM, 3 RT, 4 SSFM, 5 SS, 6 VFEF, 7 CTRL1, 8 CTRL2, 9 VC, 10 FB, 11 GND, 12 PWMTG, 13 ISN, 14 ISP, 15 TG, 16 SW, 17 BOOST, 18 BG, 19 SNSN, 20 SNSP, 21 VIN, 22 AUXSW1, 23 AUXBST, 24 AUXSW2, 25 INTVCC, 26 EN/UVLO, 27 ~{OPENLED}, 28 ~{SHORTLED}, 29 GND

## LT3932EFE_26
designator U?
pins: 1 PWM, 2 DIM, 3 RT, 4 SSFM, 5 SS, 6 VFEF, 7 CTRL1, 8 CTRL2, 9 VC, 10 FB, 11 GND, 12 PWMTG, 13 ISN, 14 ISP, 15 TG, 16 SW, 17 BOOST, 18 BG, 19 SNSN, 20 SNSP, 21 VIN, 22 AUXSW1, 23 AUXBST, 24 AUXSW2, 25 INTVCC, 26 EN/UVLO, 27 ~{OPENLED}, 28 ~{SHORTLED}, 29 GND

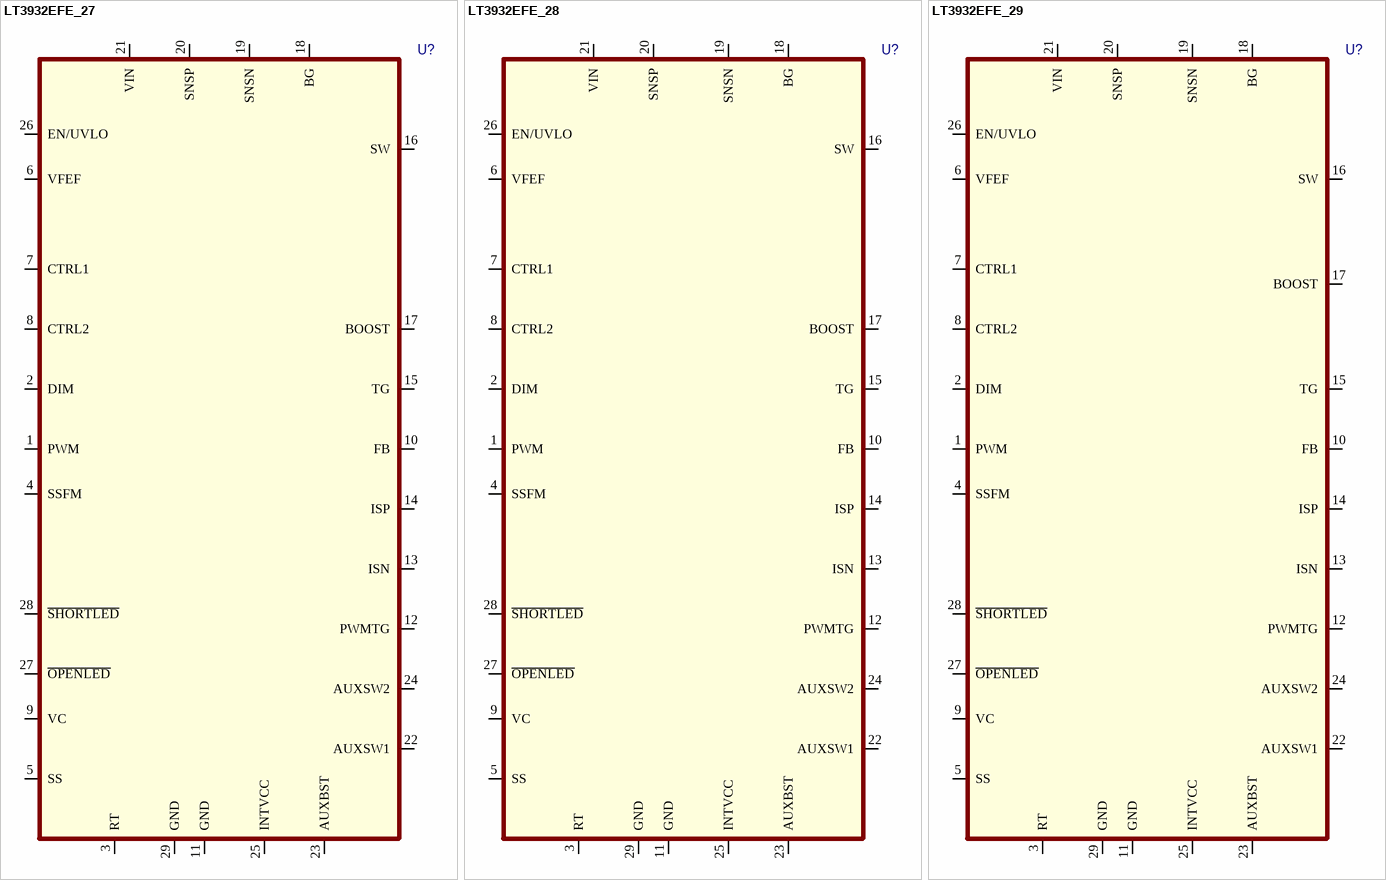
[diagram p8: symbols LT3932EFE_27 to LT3932EFE_29]

## LT3932EFE_27
designator U?
pins: 1 PWM, 2 DIM, 3 RT, 4 SSFM, 5 SS, 6 VFEF, 7 CTRL1, 8 CTRL2, 9 VC, 10 FB, 11 GND, 12 PWMTG, 13 ISN, 14 ISP, 15 TG, 16 SW, 17 BOOST, 18 BG, 19 SNSN, 20 SNSP, 21 VIN, 22 AUXSW1, 23 AUXBST, 24 AUXSW2, 25 INTVCC, 26 EN/UVLO, 27 ~{OPENLED}, 28 ~{SHORTLED}, 29 GND

## LT3932EFE_28
designator U?
pins: 1 PWM, 2 DIM, 3 RT, 4 SSFM, 5 SS, 6 VFEF, 7 CTRL1, 8 CTRL2, 9 VC, 10 FB, 11 GND, 12 PWMTG, 13 ISN, 14 ISP, 15 TG, 16 SW, 17 BOOST, 18 BG, 19 SNSN, 20 SNSP, 21 VIN, 22 AUXSW1, 23 AUXBST, 24 AUXSW2, 25 INTVCC, 26 EN/UVLO, 27 ~{OPENLED}, 28 ~{SHORTLED}, 29 GND

## LT3932EFE_29
designator U?
pins: 1 PWM, 2 DIM, 3 RT, 4 SSFM, 5 SS, 6 VFEF, 7 CTRL1, 8 CTRL2, 9 VC, 10 FB, 11 GND, 12 PWMTG, 13 ISN, 14 ISP, 15 TG, 16 SW, 17 BOOST, 18 BG, 19 SNSN, 20 SNSP, 21 VIN, 22 AUXSW1, 23 AUXBST, 24 AUXSW2, 25 INTVCC, 26 EN/UVLO, 27 ~{OPENLED}, 28 ~{SHORTLED}, 29 GND

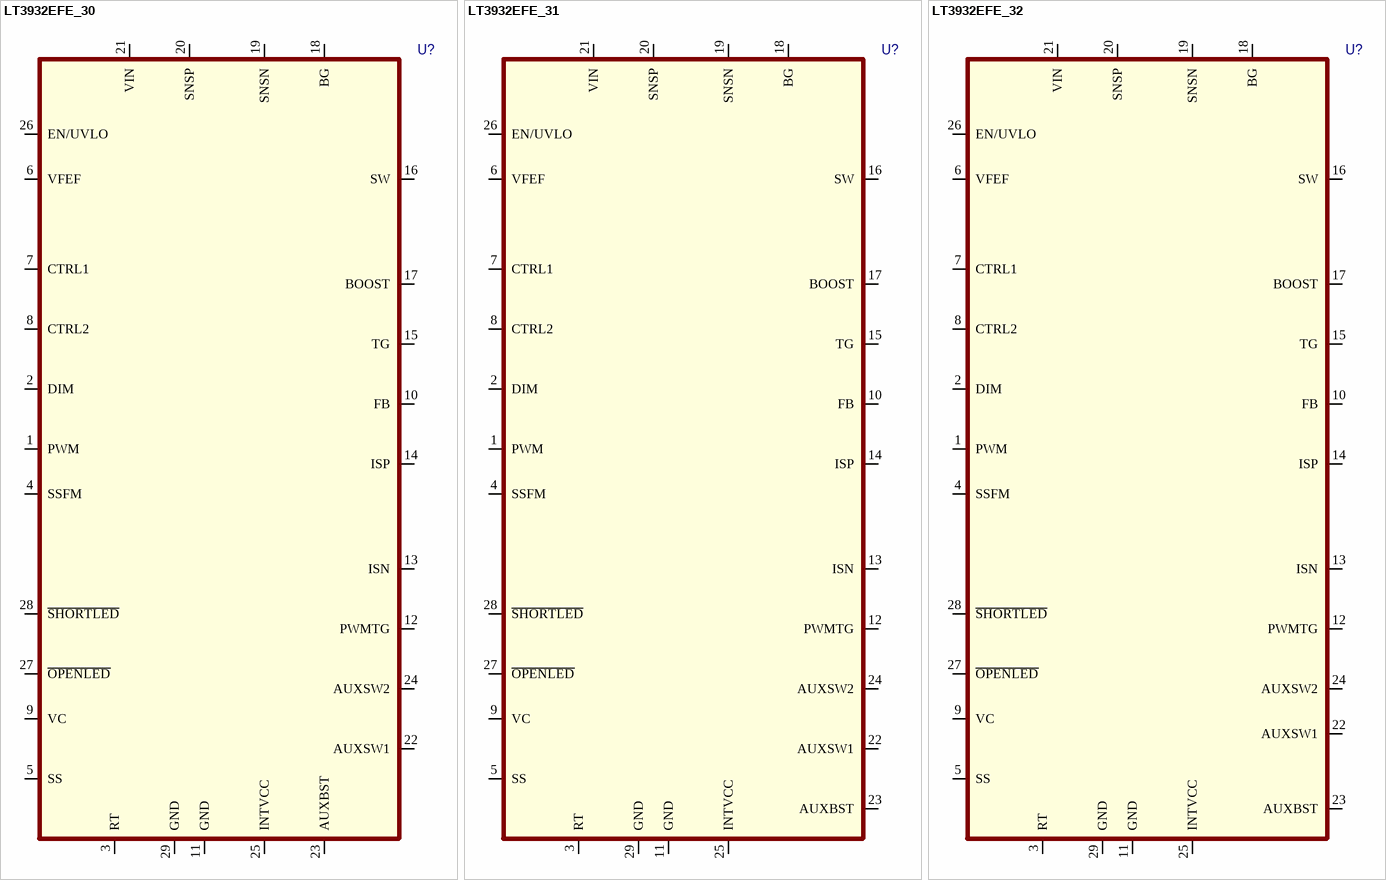
[diagram p9: symbols LT3932EFE_30 to LT3932EFE_32]

## LT3932EFE_30
designator U?
pins: 1 PWM, 2 DIM, 3 RT, 4 SSFM, 5 SS, 6 VFEF, 7 CTRL1, 8 CTRL2, 9 VC, 10 FB, 11 GND, 12 PWMTG, 13 ISN, 14 ISP, 15 TG, 16 SW, 17 BOOST, 18 BG, 19 SNSN, 20 SNSP, 21 VIN, 22 AUXSW1, 23 AUXBST, 24 AUXSW2, 25 INTVCC, 26 EN/UVLO, 27 ~{OPENLED}, 28 ~{SHORTLED}, 29 GND

## LT3932EFE_31
designator U?
pins: 1 PWM, 2 DIM, 3 RT, 4 SSFM, 5 SS, 6 VFEF, 7 CTRL1, 8 CTRL2, 9 VC, 10 FB, 11 GND, 12 PWMTG, 13 ISN, 14 ISP, 15 TG, 16 SW, 17 BOOST, 18 BG, 19 SNSN, 20 SNSP, 21 VIN, 22 AUXSW1, 23 AUXBST, 24 AUXSW2, 25 INTVCC, 26 EN/UVLO, 27 ~{OPENLED}, 28 ~{SHORTLED}, 29 GND

## LT3932EFE_32
designator U?
pins: 1 PWM, 2 DIM, 3 RT, 4 SSFM, 5 SS, 6 VFEF, 7 CTRL1, 8 CTRL2, 9 VC, 10 FB, 11 GND, 12 PWMTG, 13 ISN, 14 ISP, 15 TG, 16 SW, 17 BOOST, 18 BG, 19 SNSN, 20 SNSP, 21 VIN, 22 AUXSW1, 23 AUXBST, 24 AUXSW2, 25 INTVCC, 26 EN/UVLO, 27 ~{OPENLED}, 28 ~{SHORTLED}, 29 GND

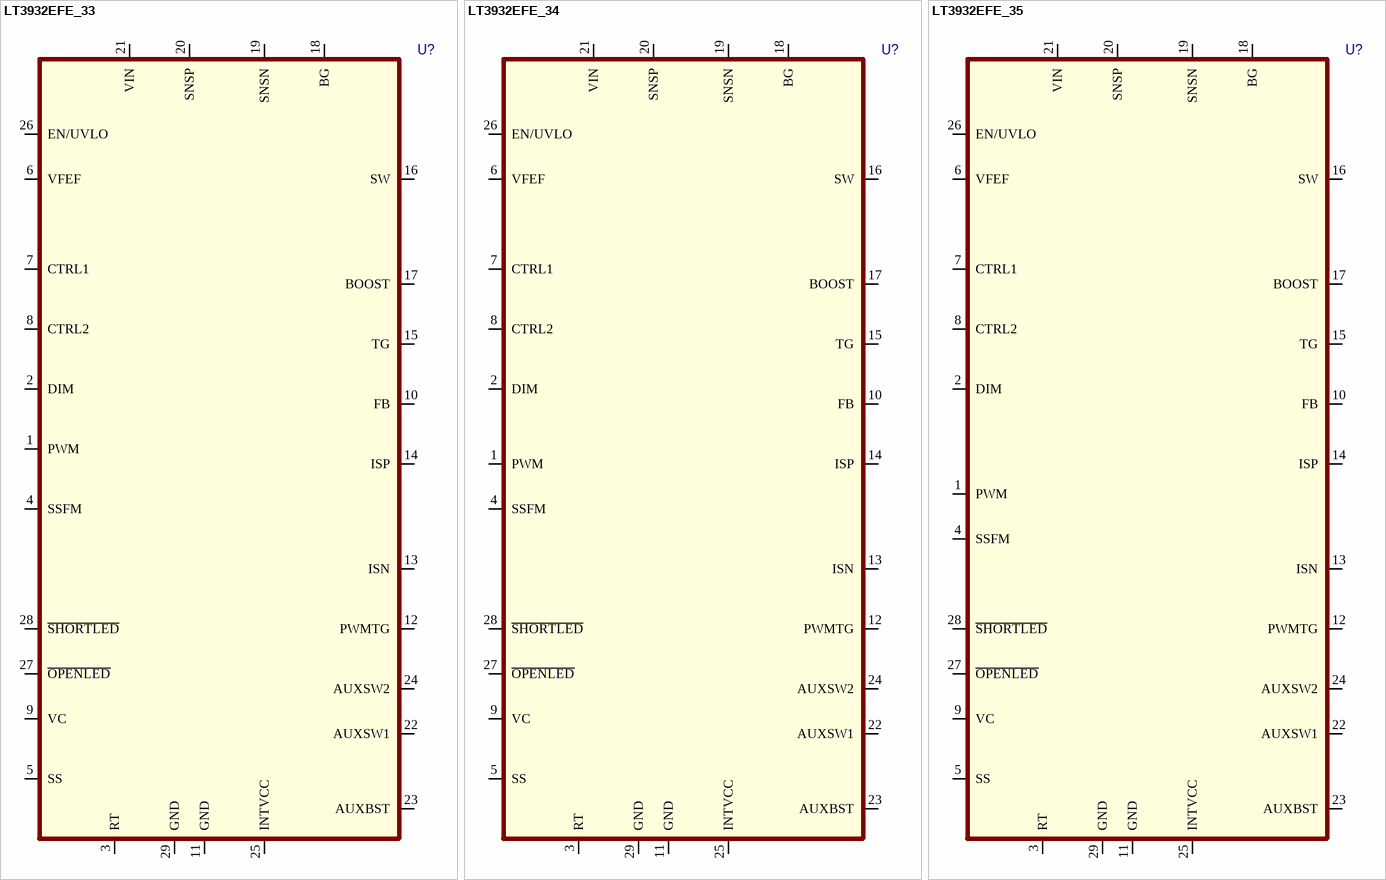
[diagram p10: symbols LT3932EFE_33 to LT3932EFE_35]

## LT3932EFE_33
designator U?
pins: 1 PWM, 2 DIM, 3 RT, 4 SSFM, 5 SS, 6 VFEF, 7 CTRL1, 8 CTRL2, 9 VC, 10 FB, 11 GND, 12 PWMTG, 13 ISN, 14 ISP, 15 TG, 16 SW, 17 BOOST, 18 BG, 19 SNSN, 20 SNSP, 21 VIN, 22 AUXSW1, 23 AUXBST, 24 AUXSW2, 25 INTVCC, 26 EN/UVLO, 27 ~{OPENLED}, 28 ~{SHORTLED}, 29 GND

## LT3932EFE_34
designator U?
pins: 1 PWM, 2 DIM, 3 RT, 4 SSFM, 5 SS, 6 VFEF, 7 CTRL1, 8 CTRL2, 9 VC, 10 FB, 11 GND, 12 PWMTG, 13 ISN, 14 ISP, 15 TG, 16 SW, 17 BOOST, 18 BG, 19 SNSN, 20 SNSP, 21 VIN, 22 AUXSW1, 23 AUXBST, 24 AUXSW2, 25 INTVCC, 26 EN/UVLO, 27 ~{OPENLED}, 28 ~{SHORTLED}, 29 GND

## LT3932EFE_35
designator U?
pins: 1 PWM, 2 DIM, 3 RT, 4 SSFM, 5 SS, 6 VFEF, 7 CTRL1, 8 CTRL2, 9 VC, 10 FB, 11 GND, 12 PWMTG, 13 ISN, 14 ISP, 15 TG, 16 SW, 17 BOOST, 18 BG, 19 SNSN, 20 SNSP, 21 VIN, 22 AUXSW1, 23 AUXBST, 24 AUXSW2, 25 INTVCC, 26 EN/UVLO, 27 ~{OPENLED}, 28 ~{SHORTLED}, 29 GND

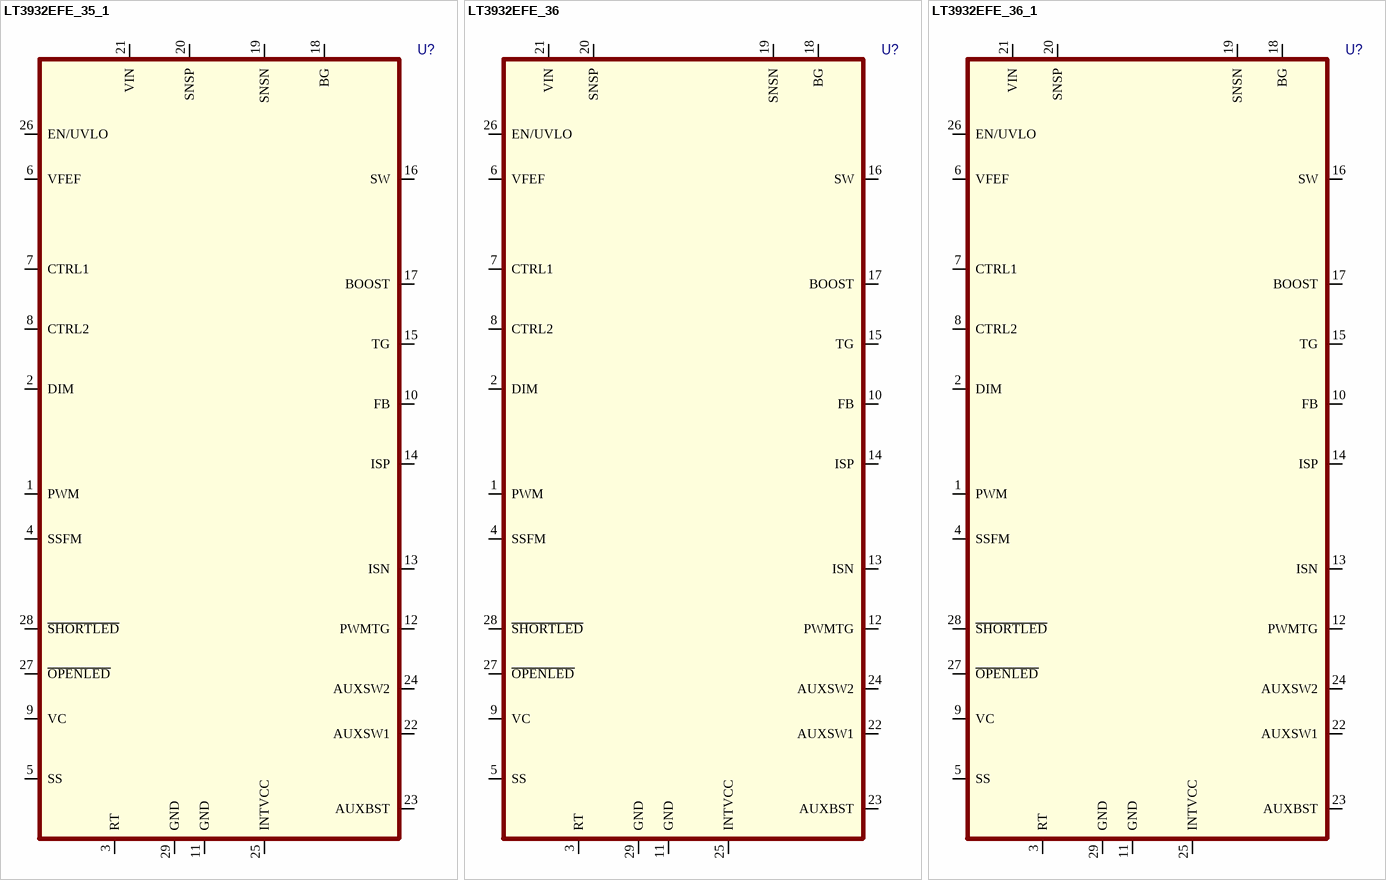
[diagram p11: symbols LT3932EFE_35_1 to LT3932EFE_36_1]

## LT3932EFE_35_1
designator U?
pins: 1 PWM, 2 DIM, 3 RT, 4 SSFM, 5 SS, 6 VFEF, 7 CTRL1, 8 CTRL2, 9 VC, 10 FB, 11 GND, 12 PWMTG, 13 ISN, 14 ISP, 15 TG, 16 SW, 17 BOOST, 18 BG, 19 SNSN, 20 SNSP, 21 VIN, 22 AUXSW1, 23 AUXBST, 24 AUXSW2, 25 INTVCC, 26 EN/UVLO, 27 ~{OPENLED}, 28 ~{SHORTLED}, 29 GND

## LT3932EFE_36
designator U?
pins: 1 PWM, 2 DIM, 3 RT, 4 SSFM, 5 SS, 6 VFEF, 7 CTRL1, 8 CTRL2, 9 VC, 10 FB, 11 GND, 12 PWMTG, 13 ISN, 14 ISP, 15 TG, 16 SW, 17 BOOST, 18 BG, 19 SNSN, 20 SNSP, 21 VIN, 22 AUXSW1, 23 AUXBST, 24 AUXSW2, 25 INTVCC, 26 EN/UVLO, 27 ~{OPENLED}, 28 ~{SHORTLED}, 29 GND

## LT3932EFE_36_1
designator U?
pins: 1 PWM, 2 DIM, 3 RT, 4 SSFM, 5 SS, 6 VFEF, 7 CTRL1, 8 CTRL2, 9 VC, 10 FB, 11 GND, 12 PWMTG, 13 ISN, 14 ISP, 15 TG, 16 SW, 17 BOOST, 18 BG, 19 SNSN, 20 SNSP, 21 VIN, 22 AUXSW1, 23 AUXBST, 24 AUXSW2, 25 INTVCC, 26 EN/UVLO, 27 ~{OPENLED}, 28 ~{SHORTLED}, 29 GND

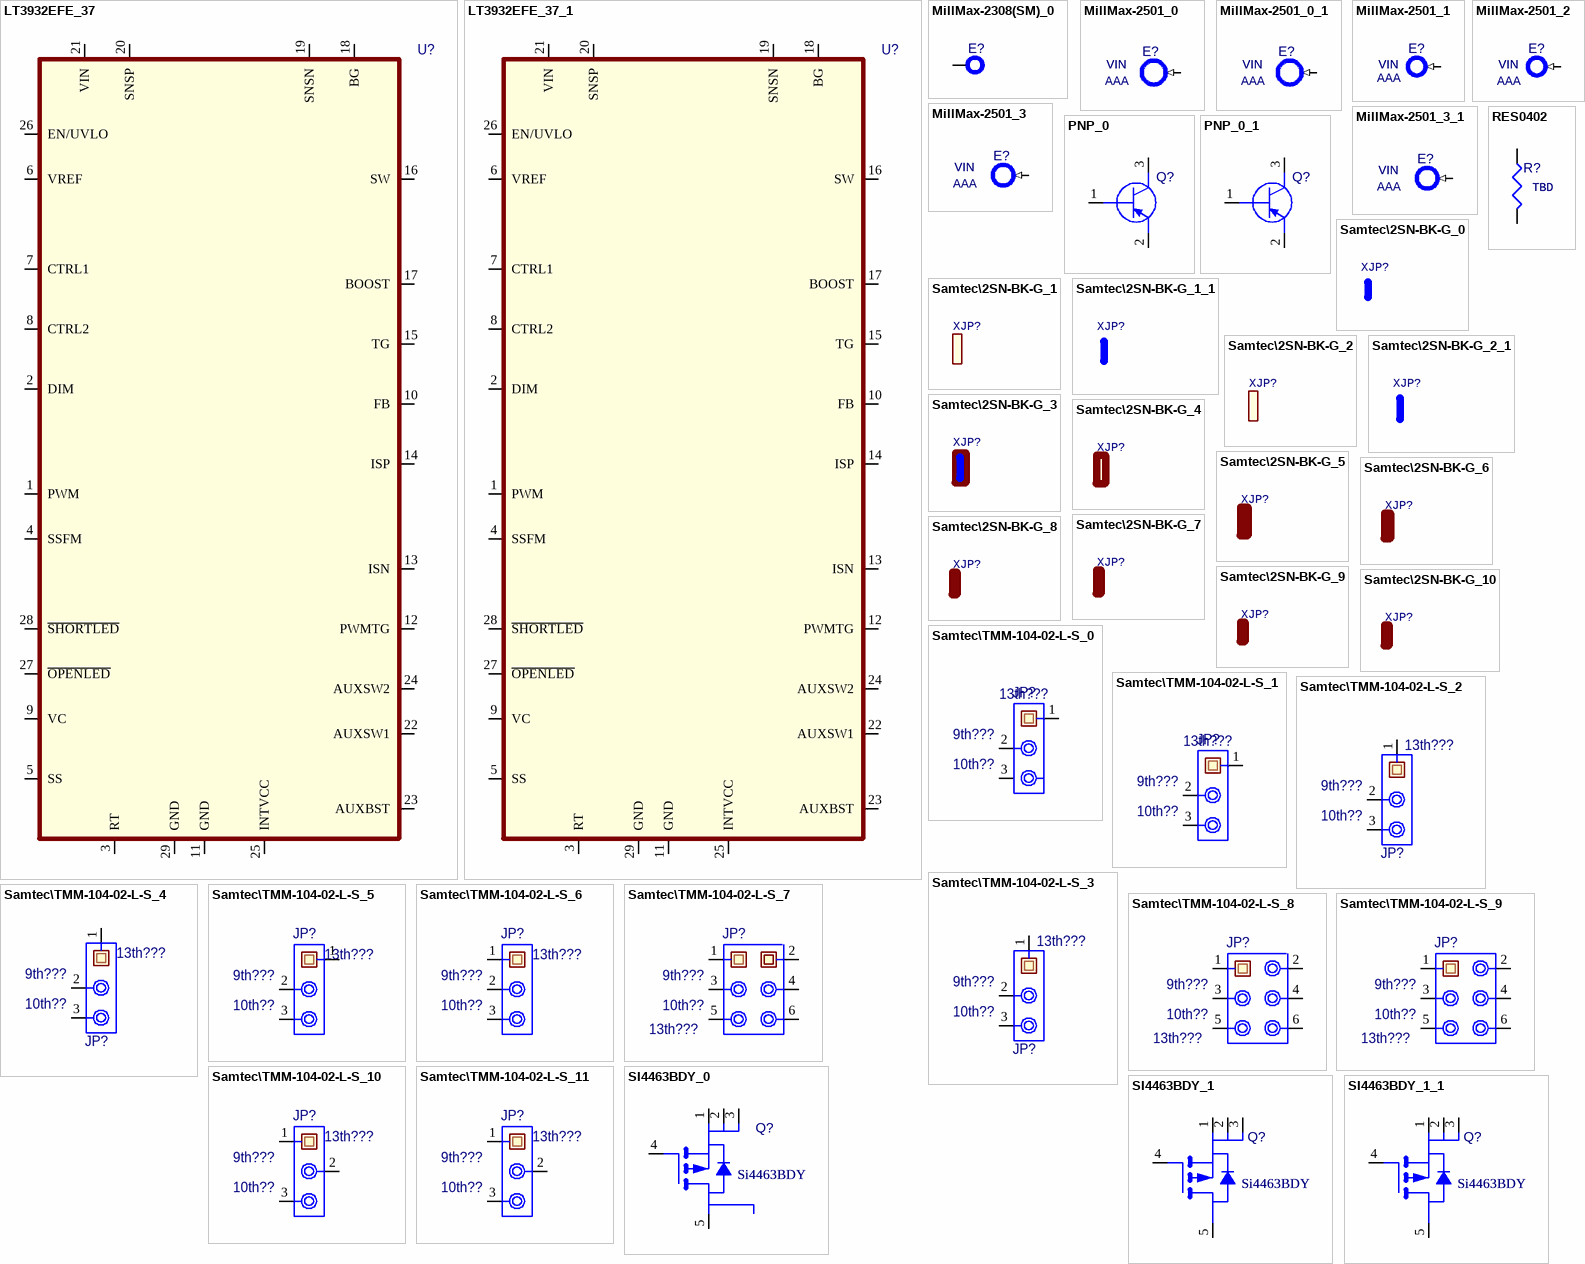
[diagram p12: symbols LT3932EFE_37 to SI4463BDY_1_1]

## LT3932EFE_37
designator U?
pins: 1 PWM, 2 DIM, 3 RT, 4 SSFM, 5 SS, 6 VREF, 7 CTRL1, 8 CTRL2, 9 VC, 10 FB, 11 GND, 12 PWMTG, 13 ISN, 14 ISP, 15 TG, 16 SW, 17 BOOST, 18 BG, 19 SNSN, 20 SNSP, 21 VIN, 22 AUXSW1, 23 AUXBST, 24 AUXSW2, 25 INTVCC, 26 EN/UVLO, 27 ~{OPENLED}, 28 ~{SHORTLED}, 29 GND

## LT3932EFE_37_1
designator U?
pins: 1 PWM, 2 DIM, 3 RT, 4 SSFM, 5 SS, 6 VREF, 7 CTRL1, 8 CTRL2, 9 VC, 10 FB, 11 GND, 12 PWMTG, 13 ISN, 14 ISP, 15 TG, 16 SW, 17 BOOST, 18 BG, 19 SNSN, 20 SNSP, 21 VIN, 22 AUXSW1, 23 AUXBST, 24 AUXSW2, 25 INTVCC, 26 EN/UVLO, 27 ~{OPENLED}, 28 ~{SHORTLED}, 29 GND

## MillMax-2308(SM)_0
designator E?
4TH PART FIELD: MILL-MAX; 5TH PART FIELD: 2308-2-00-44; 7TH PART FIELD: TURRET,
footprint MM/2308
pins: 1

## MillMax-2501_0
designator E?, comment VIN  VALUE1: AAA
4th Part Field: Mill Max; 5th Part Field: 2501-2; 7th Part Field: Turret,; Value: VIN
footprint MM/2501
pins: 1 (in)

## MillMax-2501_0_1
designator E?, comment VIN  VALUE1: AAA
4th Part Field: Mill Max; 5th Part Field: 2501-2; 7th Part Field: Turret,; Value: VIN
footprint MM/2501
pins: 1 (in)

## MillMax-2501_1
designator E?, comment VIN  VALUE1: AAA
4th Part Field: Mill Max; 5th Part Field: 2501-2; 7th Part Field: Turret,; Value: VIN
footprint MM/2501
pins: 1 (in)

## MillMax-2501_2
designator E?, comment VIN  VALUE1: AAA
4th Part Field: Mill Max; 5th Part Field: 2501-2; 7th Part Field: Turret,; Value: VIN
footprint MM/2501
pins: 1 (in)

## MillMax-2501_3
designator E?, comment VIN  VALUE1: AAA
7th Part Field: Turret,; 5th Part Field: 2501-2; 4th Part Field: Mill Max; Value: VIN
footprint MM/2501
pins: 1 (in)

## MillMax-2501_3_1
designator E?, comment VIN  VALUE1: AAA
4th Part Field: Mill Max; 5th Part Field: 2501-2; 7th Part Field: Turret,; Value: VIN
footprint MM/2501
pins: 1 (in)

## PNP_0
designator Q?
4TH PART FIELD: MF; 5TH PART FIELD: PART #; 7TH PART FIELD: TRANSISTOR,; 2ND PART FIELD: PACKAGE
pins: 1 B, 2 E, 3 C

## PNP_0_1
designator Q?
2ND PART FIELD: PACKAGE; 7TH PART FIELD: TRANSISTOR,; 5TH PART FIELD: PART #; 4TH PART FIELD: MF
pins: 1 B, 2 E, 3 C

## RES0402
designator R?, comment TBD
6th Part Field: (Opt); 7th Part Field: Res.,; 3rd Part Field: 0402; Value: TBD
footprint 0402
pins: 1, 2

## Samtec\2SN-BK-G_0
designator XJP?, comment 2mm Ctrs.  (value not drawn)
7th Part Field: Shunt,; 5th Part Field: 2SN-BK-G; 4th Part Field: Samtec; Value: 2mm Ctrs.

## Samtec\2SN-BK-G_1
designator XJP?, comment 2mm Ctrs.  (value not drawn)
4th Part Field: Samtec; 5th Part Field: 2SN-BK-G; 7th Part Field: Shunt,; Value: 2mm Ctrs.

## Samtec\2SN-BK-G_1_1
designator XJP?, comment 2mm Ctrs.  (value not drawn)
7th Part Field: Shunt,; 5th Part Field: 2SN-BK-G; 4th Part Field: Samtec; Value: 2mm Ctrs.

## Samtec\2SN-BK-G_2
designator XJP?, comment 2mm Ctrs.  (value not drawn)
7th Part Field: Shunt,; 5th Part Field: 2SN-BK-G; 4th Part Field: Samtec; Value: 2mm Ctrs.

## Samtec\2SN-BK-G_2_1
designator XJP?, comment 2mm Ctrs.  (value not drawn)
7th Part Field: Shunt,; 5th Part Field: 2SN-BK-G; 4th Part Field: Samtec; Value: 2mm Ctrs.

## Samtec\2SN-BK-G_3
designator XJP?, comment 2mm Ctrs.  (value not drawn)
7th Part Field: Shunt,; 5th Part Field: 2SN-BK-G; 4th Part Field: Samtec; Value: 2mm Ctrs.

## Samtec\2SN-BK-G_4
designator XJP?, comment 2mm Ctrs.  (value not drawn)
7th Part Field: Shunt,; 5th Part Field: 2SN-BK-G; 4th Part Field: Samtec; Value: 2mm Ctrs.

## Samtec\2SN-BK-G_5
designator XJP?, comment 2mm Ctrs.  (value not drawn)
7th Part Field: Shunt,; 5th Part Field: 2SN-BK-G; 4th Part Field: Samtec; Value: 2mm Ctrs.

## Samtec\2SN-BK-G_6
designator XJP?, comment 2mm Ctrs.  (value not drawn)
7th Part Field: Shunt,; 5th Part Field: 2SN-BK-G; 4th Part Field: Samtec; Value: 2mm Ctrs.

## Samtec\2SN-BK-G_7
designator XJP?, comment 2mm Ctrs.  (value not drawn)
7th Part Field: Shunt,; 5th Part Field: 2SN-BK-G; 4th Part Field: Samtec; Value: 2mm Ctrs.

## Samtec\2SN-BK-G_8
designator XJP?, comment 2mm Ctrs.  (value not drawn)
7th Part Field: Shunt,; 5th Part Field: 2SN-BK-G; 4th Part Field: Samtec; Value: 2mm Ctrs.

## Samtec\2SN-BK-G_9
designator XJP?, comment 2mm Ctrs.  (value not drawn)
7th Part Field: Shunt,; 5th Part Field: 2SN-BK-G; 4th Part Field: Samtec; Value: 2mm Ctrs.

## Samtec\2SN-BK-G_10
designator XJP?, comment 2mm Ctrs.  (value not drawn)
7th Part Field: Shunt,; 5th Part Field: 2SN-BK-G; 4th Part Field: Samtec; Value: 2mm Ctrs.

## Samtec\TMM-104-02-L-S_0
designator JP?, comment 13tht Part Field: 13th???  10th Part Field: 10th??  9th Part Field: 9th???  (hidden comment: 4 Pins 2mm Ctrs.)
12th Part Field: 12th???; 11th Part Field: 11th??; 4th Part Field: Samtec; 5th Part Field: TMM-104-02-L-S; 7th Part Field: Headers,; Value: 4 Pins 2mm Ctrs.
footprint Samtec\TMM-104-02-L-S
pins: 1, 2, 3

## Samtec\TMM-104-02-L-S_1
designator JP?, comment 9th Part Field: 9th???  10th Part Field: 10th??  13tht Part Field: 13th???  (hidden comment: 4 Pins 2mm Ctrs.)
7th Part Field: Headers,; 5th Part Field: TMM-104-02-L-S; 4th Part Field: Samtec; 11th Part Field: 11th??; 12th Part Field: 12th???; Value: 4 Pins 2mm Ctrs.
footprint Samtec\TMM-104-02-L-S
pins: 1, 2, 3

## Samtec\TMM-104-02-L-S_2
designator JP?, comment 9th Part Field: 9th???  10th Part Field: 10th??  13tht Part Field: 13th???  (hidden comment: 4 Pins 2mm Ctrs.)
7th Part Field: Headers,; 5th Part Field: TMM-104-02-L-S; 4th Part Field: Samtec; 11th Part Field: 11th??; 12th Part Field: 12th???; Value: 4 Pins 2mm Ctrs.
footprint Samtec\TMM-104-02-L-S
pins: 1, 2, 3

## Samtec\TMM-104-02-L-S_3
designator JP?, comment 9th Part Field: 9th???  10th Part Field: 10th??  13tht Part Field: 13th???  (hidden comment: 4 Pins 2mm Ctrs.)
7th Part Field: Headers,; 5th Part Field: TMM-104-02-L-S; 4th Part Field: Samtec; 11th Part Field: 11th??; 12th Part Field: 12th???; Value: 4 Pins 2mm Ctrs.
footprint Samtec\TMM-104-02-L-S
pins: 1, 2, 3

## Samtec\TMM-104-02-L-S_4
designator JP?, comment 9th Part Field: 9th???  10th Part Field: 10th??  13tht Part Field: 13th???  (hidden comment: 4 Pins 2mm Ctrs.)
7th Part Field: Headers,; 5th Part Field: TMM-104-02-L-S; 4th Part Field: Samtec; 11th Part Field: 11th??; 12th Part Field: 12th???; Value: 4 Pins 2mm Ctrs.
footprint Samtec\TMM-104-02-L-S
pins: 1, 2, 3

## Samtec\TMM-104-02-L-S_5
designator JP?, comment 9th Part Field: 9th???  10th Part Field: 10th??  13tht Part Field: 13th???  (hidden comment: 4 Pins 2mm Ctrs.)
7th Part Field: Headers,; 5th Part Field: TMM-104-02-L-S; 4th Part Field: Samtec; 11th Part Field: 11th??; 12th Part Field: 12th???; Value: 4 Pins 2mm Ctrs.
footprint Samtec\TMM-104-02-L-S
pins: 1, 2, 3

## Samtec\TMM-104-02-L-S_6
designator JP?, comment 9th Part Field: 9th???  10th Part Field: 10th??  13tht Part Field: 13th???  (hidden comment: 4 Pins 2mm Ctrs.)
7th Part Field: Headers,; 5th Part Field: TMM-104-02-L-S; 4th Part Field: Samtec; 11th Part Field: 11th??; 12th Part Field: 12th???; Value: 4 Pins 2mm Ctrs.
footprint Samtec\TMM-104-02-L-S
pins: 1, 2, 3

## Samtec\TMM-104-02-L-S_7
designator JP?, comment 13tht Part Field: 13th???  10th Part Field: 10th??  9th Part Field: 9th???  (hidden comment: 4 Pins 2mm Ctrs.)
12th Part Field: 12th???; 11th Part Field: 11th??; 4th Part Field: Samtec; 5th Part Field: TMM-104-02-L-S; 7th Part Field: Headers,; Value: 4 Pins 2mm Ctrs.
footprint Samtec\TMM-104-02-L-S
pins: 1, 2, 3, 4, 5, 6

## Samtec\TMM-104-02-L-S_8
designator JP?, comment 13tht Part Field: 13th???  10th Part Field: 10th??  9th Part Field: 9th???  (hidden comment: 4 Pins 2mm Ctrs.)
12th Part Field: 12th???; 11th Part Field: 11th??; 4th Part Field: Samtec; 5th Part Field: TMM-104-02-L-S; 7th Part Field: Headers,; Value: 4 Pins 2mm Ctrs.
footprint Samtec\TMM-104-02-L-S
pins: 1, 2, 3, 4, 5, 6

## Samtec\TMM-104-02-L-S_9
designator JP?, comment 13tht Part Field: 13th???  10th Part Field: 10th??  9th Part Field: 9th???  (hidden comment: 4 Pins 2mm Ctrs.)
12th Part Field: 12th???; 11th Part Field: 11th??; 4th Part Field: Samtec; 5th Part Field: TMM-104-02-L-S; 7th Part Field: Headers,; Value: 4 Pins 2mm Ctrs.
footprint Samtec\TMM-104-02-L-S
pins: 1, 2, 3, 4, 5, 6

## Samtec\TMM-104-02-L-S_10
designator JP?, comment 9th Part Field: 9th???  10th Part Field: 10th??  13tht Part Field: 13th???  (hidden comment: 4 Pins 2mm Ctrs.)
7th Part Field: Headers,; 5th Part Field: TMM-104-02-L-S; 4th Part Field: Samtec; 11th Part Field: 11th??; 12th Part Field: 12th???; Value: 4 Pins 2mm Ctrs.
footprint Samtec\TMM-104-02-L-S
pins: 1, 2, 3

## Samtec\TMM-104-02-L-S_11
designator JP?, comment 9th Part Field: 9th???  10th Part Field: 10th??  13tht Part Field: 13th???  (hidden comment: 4 Pins 2mm Ctrs.)
7th Part Field: Headers,; 5th Part Field: TMM-104-02-L-S; 4th Part Field: Samtec; 11th Part Field: 11th??; 12th Part Field: 12th???; Value: 4 Pins 2mm Ctrs.
footprint Samtec\TMM-104-02-L-S
pins: 1, 2, 3

## SI4463BDY_0
designator Q?, comment Si4463BDY
7TH PART FIELD: P-MOSFET; 4TH PART FIELD: VISHAY; 5TH PART FIELD: Si4463BDY; Value: Si4463BDY
footprint SO-08
pins: 1, 2, 3, 4, 5

## SI4463BDY_1
designator Q?, comment Si4463BDY
7TH PART FIELD: P-MOSFET; 4TH PART FIELD: VISHAY; 5TH PART FIELD: Si4463BDY; Value: Si4463BDY
footprint SO-08
pins: 1, 2, 3, 4, 5

## SI4463BDY_1_1
designator Q?, comment Si4463BDY
7TH PART FIELD: P-MOSFET; 4TH PART FIELD: VISHAY; 5TH PART FIELD: Si4463BDY; Value: Si4463BDY
footprint SO-08
pins: 1, 2, 3, 4, 5

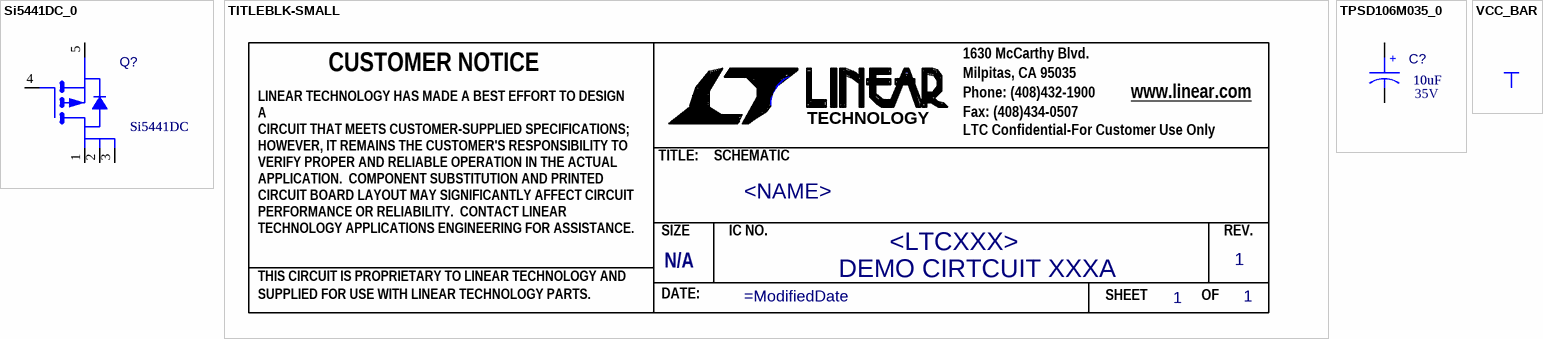
[diagram p13: symbols Si5441DC_0 to VCC_BAR]

## Si5441DC_0
designator Q?, comment Si5441DC
4TH PART FIELD: VISHAY; 7TH PART FIELD: P-MOSFET; 5TH PART FIELD: Si5441DC; Value: Si5441DC
footprint 1206-8
pins: 1 D, 2 D, 3 D, 4 G, 5 S

## TITLEBLK-SMALL
designator *  Page Count: 1  Doc: DEMO CIRTCUIT XXXA  Title: <NAME>  DWG NAME: <LTCXXX>  (hidden comment: *)  (graphical)
FAB: 1ST PROTOTYPE; APP. ENG.: TIGER Z.; PCB DESIGNER: KIM T.; DATE1: <DATE>; ECO: 1; SIZE: N/A; Drawn: KIM T.; Page Number: 1; RevCode: 1; DATE: <DATE>; Page Modify Date: =ModifiedDate
text: 1630 McCarthy Blvd.; CUSTOMER NOTICE; Milpitas, CA 95035; LINEAR TECHNOLOGY HAS MADE A BEST EFFORT TO DESIGN A / CIRCUIT THAT MEETS CUSTOMER-SUPPLIED SPECIFICATIONS; / HOWEVER, IT REMAINS THE CUSTOMER'S RESPONSIBILITY TO / VERIFY PROPER AND RELIABLE OPERATION IN THE ACTUAL / APPLICATION.  COMPONENT SUBSTITUTION AND PRINTED / CIRCUIT BOARD LAYOUT MAY SIGNIFICANTLY AFFECT CIRCUIT / PERFORMANCE OR RELIABILITY.  CONTACT LINEAR / TECHNOLOGY APPLICATIONS ENGINEERING FOR ASSISTANCE.; Phone: (408)432-1900; www.linear.com; Fax: (408)434-0507; TECHNOLOGY; LTC Confidential-For Customer Use Only; TITLE:; SCHEMATIC; SIZE; IC NO.; REV.; THIS CIRCUIT IS PROPRIETARY TO LINEAR TECHNOLOGY AND; SUPPLIED FOR USE WITH LINEAR TECHNOLOGY PARTS.; DATE:; SHEET; OF

## TPSD106M035_0
designator C?, comment 10uF  1st Part Field: 35V
5th Part Field: TPSD106M035R0300; 4th Part Field: AVX; 7th Part Field: Cap.,; 3rd Part Field: Tant.; 2nd Part Field: 20%; Value: 10uF
footprint 7343\avx
pins: 1, 2
text: +

## VCC_BAR
designator *  (value not drawn)  (graphical)
pins: $PIN0 (power) hidden to $PIN0